# Altium integrated library Atmel Microcontroller ARM.IntLib: 148 symbols (part 6 of 11)
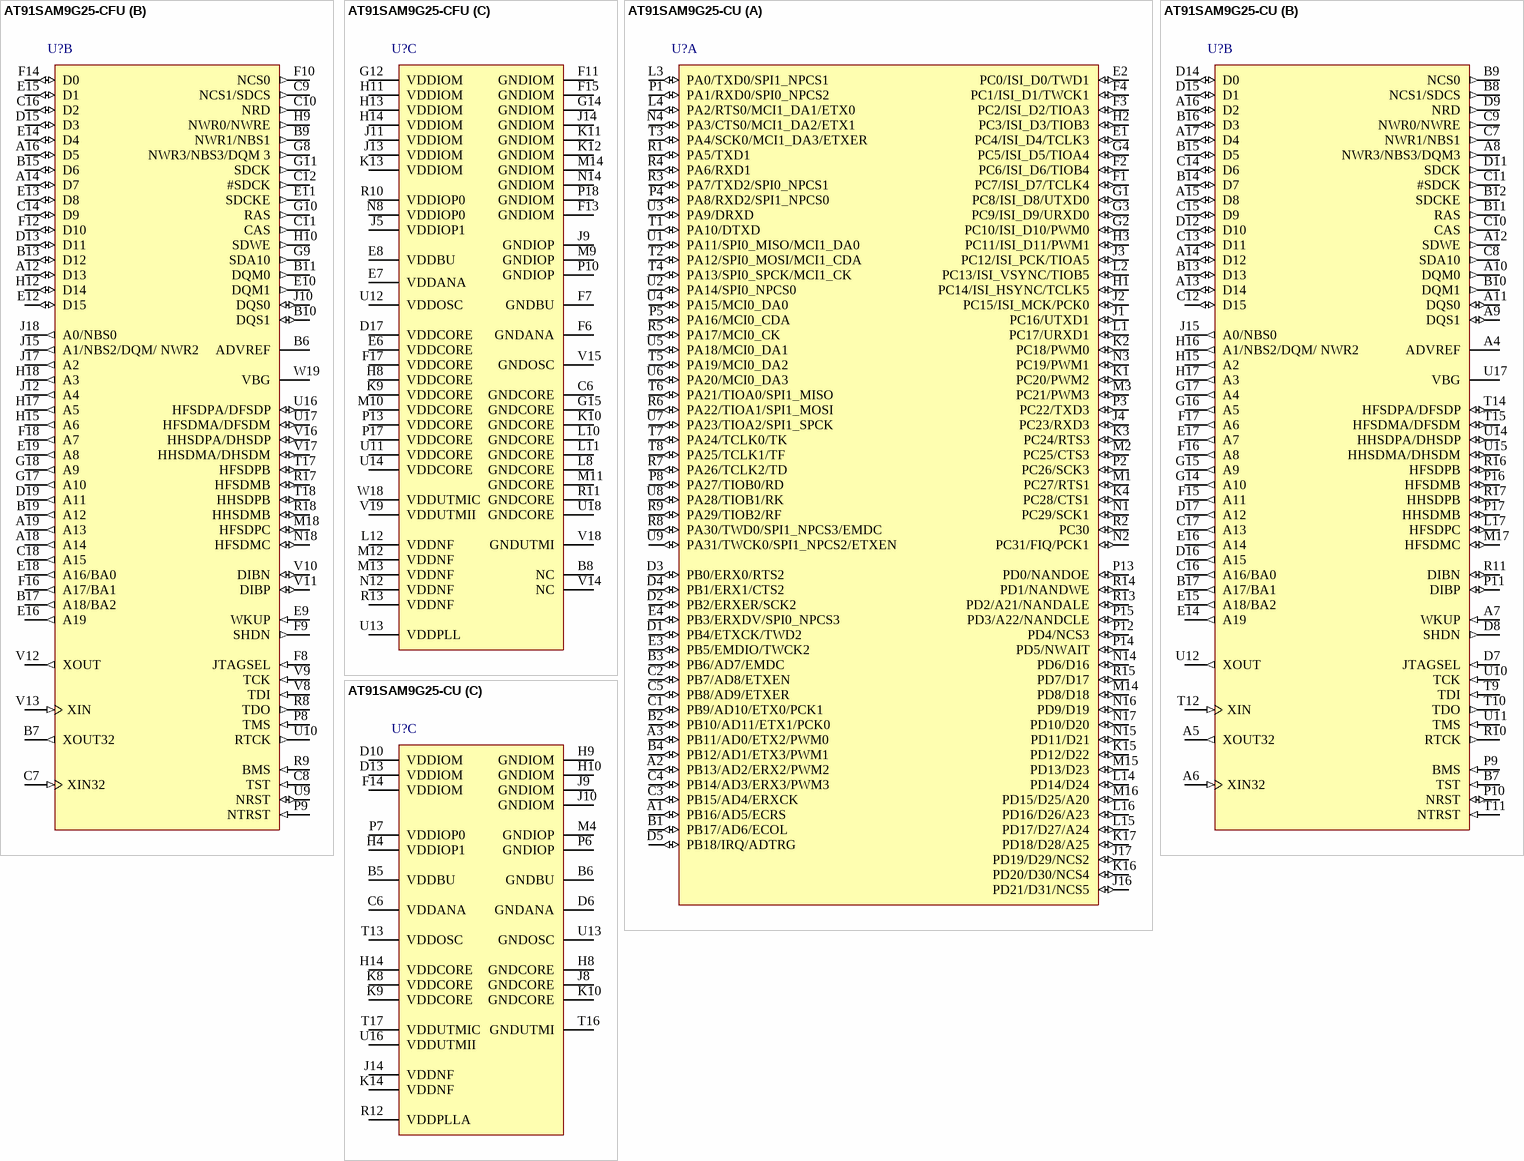
[diagram p66: symbols AT91SAM9G25-CFU to AT91SAM9G25-CU]

## AT91SAM9G25-CU
designator U?
AT91 ARM Thumb 32-bit Embedded MPU, 400MHz, 1V, Ethernet, HS USB, LPDDR/DDR2/MLC NAND support, 217-Pin BGA, Industrial Grade (-40°C to 85°C), Pb-Free; DatasheetVersion: revA, Jul-2011; PackageVersion: 2011; PackageReference: LFBGA217; PackageDescription: 217-Ball Plastic Low Profile Fine-Pitch BGA, 15 x 15 mm Body, 0.8 mm Pitch; Code_JEDEC: MO-205; ComponentLink1Description: Manufacturer URL; ComponentLink1URL: http://www.atmel.com/; ComponentLink2Description: SAM9G25 Datasheet; ComponentLink2URL: http://www.atmel.com/dyn/resources/prod_documents/doc11032.pdf; ComponentLink3Description: SAM9G25 Summary; ComponentLink3URL: http://www.atmel.com/dyn/resources/prod_documents/11032s.pdf
footprint LFBGA217 (BGA, 208-Leads, Body 15x15mm, Pitch 0.8mm, Solder Mask Defined Pads)
part A pins: A1 PB16/AD5/ECRS (io), A2 PB13/AD2/ERX2/PWM2 (io), A3 PB11/AD0/ETX2/PWM0 (io), B1 PB17/AD6/ECOL (io), B2 PB10/AD11/ETX1/PCK0 (io), B3 PB6/AD7/EMDC (io), B4 PB12/AD1/ETX3/PWM1 (io), C1 PB9/AD10/ETX0/PCK1 (io), C2 PB7/AD8/ETXEN (io), C3 PB15/AD4/ERXCK (io), C4 PB14/AD3/ERX3/PWM3 (io), C5 PB8/AD9/ETXER (io), D1 PB4/ETXCK/TWD2 (io), D2 PB2/ERXER/SCK2 (io), D3 PB0/ERX0/RTS2 (io), D4 PB1/ERX1/CTS2 (io), D5 PB18/IRQ/ADTRG (io), E1 PC4/ISI_D4/TCLK3 (io), E2 PC0/ISI_D0/TWD1 (io), E3 PB5/EMDIO/TWCK2 (io), E4 PB3/ERXDV/SPI0_NPCS3 (io), F1 PC7/ISI_D7/TCLK4 (io), F2 PC6/ISI_D6/TIOB4 (io), F3 PC2/ISI_D2/TIOA3 (io), F4 PC1/ISI_D1/TWCK1 (io), G1 PC8/ISI_D8/UTXD0 (io), G2 PC10/ISI_D10/PWM0 (io), G3 PC9/ISI_D9/URXD0 (io), G4 PC5/ISI_D5/TIOA4 (io), H1 PC14/ISI_HSYNC/TCLK5 (io), H2 PC3/ISI_D3/TIOB3 (io), H3 PC11/ISI_D11/PWM1 (io), J1 PC16/UTXD1 (io), J2 PC15/ISI_MCK/PCK0 (io), J3 PC12/ISI_PCK/TIOA5 (io), J4 PC23/RXD3 (io), J16 PD21/D31/NCS5 (io), J17 PD19/D29/NCS2 (io), K1 PC20/PWM2 (io), K2 PC18/PWM0 (io), K3 PC24/RTS3 (io), K4 PC28/CTS1 (io), K15 PD12/D22 (io), K16 PD20/D30/NCS4 (io), K17 PD18/D28/A25 (io), L1 PC17/URXD1 (io), L2 PC13/ISI_VSYNC/TIOB5 (io), L3 PA0/TXD0/SPI1_NPCS1 (io), L4 PA2/RTS0/MCI1_DA1/ETX0 (io), L14 PD14/D24 (io), L15 PD17/D27/A24 (io), L16 PD16/D26/A23 (io), M1 PC27/RTS1 (io), M2 PC25/CTS3 (io), M3 PC21/PWM3 (io), M14 PD8/D18 (io), M15 PD13/D23 (io), M16 PD15/D25/A20 (io), N1 PC29/SCK1 (io), N2 PC31/FIQ/PCK1 (io), N3 PC19/PWM1 (io), N4 PA3/CTS0/MCI1_DA2/ETX1 (io), N14 PD6/D16 (io), N15 PD11/D21 (io), N16 PD9/D19 (io), N17 PD10/D20 (io), P1 PA1/RXD0/SPI0_NPCS2 (io), P2 PC26/SCK3 (io), P3 PC22/TXD3 (io), P4 PA8/RXD2/SPI1_NPCS0 (io), P5 PA16/MCI0_CDA (io), P8 PA27/TIOB0/RD (io), P12 PD4/NCS3 (io), P13 PD0/NANDOE (io), P14 PD5/NWAIT (io), P15 PD3/A22/NANDCLE (io), R1 PA5/TXD1 (io), R2 PC30 (io), R3 PA7/TXD2/SPI0_NPCS1 (io), R4 PA6/RXD1 (io), R5 PA17/MCI0_CK (io), R6 PA22/TIOA1/SPI1_MOSI (io), R7 PA26/TCLK2/TD (io), R8 PA30/TWD0/SPI1_NPCS3/EMDC (io), R9 PA29/TIOB2/RF (io), R13 PD2/A21/NANDALE (io), R14 PD1/NANDWE (io), R15 PD7/D17 (io), T1 PA10/DTXD (io), T2 PA12/SPI0_MOSI/MCI1_CDA (io), T3 PA4/SCK0/MCI1_DA3/ETXER (io), T4 PA13/SPI0_SPCK/MCI1_CK (io), T5 PA19/MCI0_DA2 (io), T6 PA21/TIOA0/SPI1_MISO (io), T7 PA24/TCLK0/TK (io), T8 PA25/TCLK1/TF (io), U1 PA11/SPI0_MISO/MCI1_DA0 (io), U2 PA14/SPI0_NPCS0 (io), U3 PA9/DRXD (io), U4 PA15/MCI0_DA0 (io), U5 PA18/MCI0_DA1 (io), U6 PA20/MCI0_DA3 (io), U7 PA23/TIOA2/SPI1_SPCK (io), U8 PA28/TIOB1/RK (io), U9 PA31/TWCK0/SPI1_NPCS2/ETXEN (io)
part B pins: A4 ADVREF (power), A5 XOUT32 (out), A6 XIN32 (in), A7 WKUP (in), A8 NWR3/NBS3/DQM3 (out), A9 DQS1 (io), A10 DQM0 (out), A11 DQS0 (io), A12 SDWE (out), A13 D14 (io), A14 D12 (io), A15 D8 (io), A16 D2 (io), A17 D4 (io), B7 TST (in), B8 NCS1/SDCS (out), B9 NCS0 (out), B10 DQM1 (out), B11 RAS (out), B12 SDCKE (out), B13 D13 (io), B14 D7 (io), B15 D5 (io), B16 D3 (io), B17 A17/BA1 (out), C7 NWR1/NBS1 (out), C8 SDA10 (out), C9 NWR0/NWRE (out), C10 CAS (out), C11 #SDCK (out), C12 D15 (io), C13 D11 (io), C14 D6 (io), C15 D9 (io), C16 A16/BA0 (out), C17 A13 (out), D7 JTAGSEL (in), D8 SHDN (out), D9 NRD (out), D11 SDCK (out), D12 D10 (io), D14 D0 (io), D15 D1 (io), D16 A15 (out), D17 A12 (out), E14 A19 (out), E15 A18/BA2 (out), E16 A14 (out), E17 A7 (out), F15 A11 (out), F16 A8 (out), F17 A6 (out), G14 A10 (out), G15 A9 (out), G16 A5 (out), G17 A4 (out), H15 A2 (out), H16 A1/NBS2/DQM/ NWR2 (out), H17 A3 (out), J15 A0/NBS0 (out), L17 HFSDPC (io), M17 HFSDMC (io), P9 BMS (in), P10 NRST (io), P11 DIBP (io), P16 HFSDMB (io), P17 HHSDMB (io), R10 RTCK (out), R11 DIBN (io), R16 HFSDPB (io), R17 HHSDPB (io), T9 TDI (in), T10 TDO (out), T11 NTRST (in), T12 XIN (in), T14 HFSDPA/DFSDP (io), T15 HFSDMA/DFSDM (io), U10 TCK (in), U11 TMS (in), U12 XOUT (out), U14 HHSDPA/DHSDP (io), U15 HHSDMA/DHSDM (io), U17 VBG (power)
part C pins: B5 VDDBU (power), B6 GNDBU (power), C6 VDDANA (power), D6 GNDANA (power), D10 VDDIOM (power), D13 VDDIOM (power), F14 VDDIOM (power), H4 VDDIOP1 (power), H8 GNDCORE (power), H9 GNDIOM (power), H10 GNDIOM (power), H14 VDDCORE (power), J8 GNDCORE (power), J9 GNDIOM (power), J10 GNDIOM (power), J14 VDDNF (power), K8 VDDCORE (power), K9 VDDCORE (power), K10 GNDCORE (power), K14 VDDNF (power), M4 GNDIOP (power), P6 GNDIOP (power), P7 VDDIOP0 (power), R12 VDDPLLA (power), T13 VDDOSC (power), T16 GNDUTMI (power), T17 VDDUTMIC (power), U13 GNDOSC (power), U16 VDDUTMII (power)

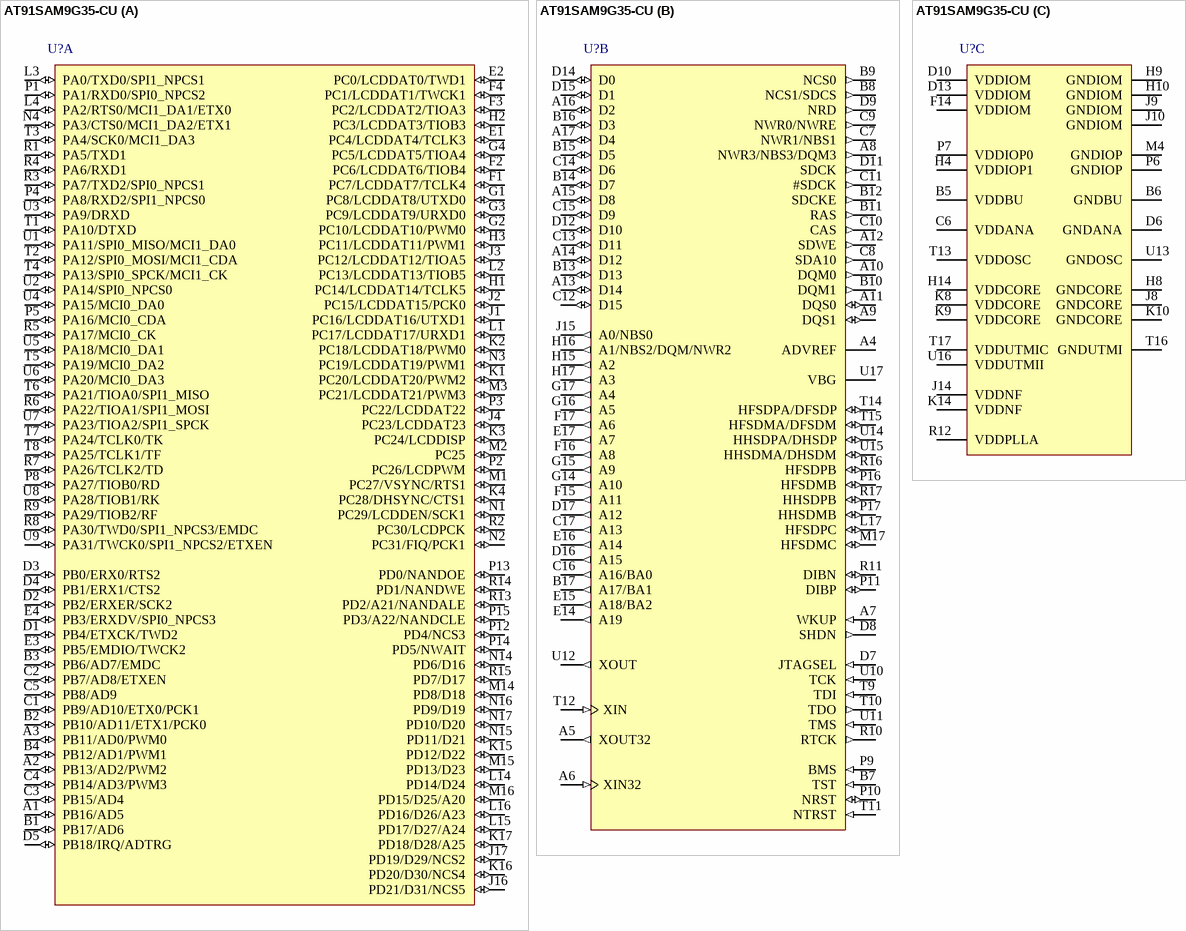
[diagram p33: symbol AT91SAM9G35-CU]

## AT91SAM9G35-CU
designator U?
AT91 ARM Thumb 32-bit Embedded MPU, 400MHz, 1V, LCD, Touchscreen, Ethernet, HS USB, LPDDR/DDR2/MLC NAND support, 217-Pin LFBGA, Industrial Grade (-40°C to 85°C), Pb-Free; DatasheetVersion: revB, Sep-2011; PackageVersion: 2011; PackageReference: LFBGA217; PackageDescription: 217-Ball Plastic Low Profile Fine-Pitch BGA, 15 x 15 mm Body, 0.8 mm Pitch; Code_JEDEC: MO-205; ComponentLink1Description: Manufacturer URL; ComponentLink1URL: http://www.atmel.com/; ComponentLink2Description: SAM9G35 Datasheet; ComponentLink2URL: http://www.atmel.com/dyn/resources/prod_documents/doc11053.pdf; ComponentLink3Description: SAM9G35 Summary; ComponentLink3URL: http://www.atmel.com/dyn/resources/prod_documents/11053s.pdf
footprint LFBGA217 (BGA, 208-Leads, Body 15x15mm, Pitch 0.8mm, Solder Mask Defined Pads)
part A pins: A1 PB16/AD5 (io), A2 PB13/AD2/PWM2 (io), A3 PB11/AD0/PWM0 (io), B1 PB17/AD6 (io), B2 PB10/AD11/ETX1/PCK0 (io), B3 PB6/AD7/EMDC (io), B4 PB12/AD1/PWM1 (io), C1 PB9/AD10/ETX0/PCK1 (io), C2 PB7/AD8/ETXEN (io), C3 PB15/AD4 (io), C4 PB14/AD3/PWM3 (io), C5 PB8/AD9 (io), D1 PB4/ETXCK/TWD2 (io), D2 PB2/ERXER/SCK2 (io), D3 PB0/ERX0/RTS2 (io), D4 PB1/ERX1/CTS2 (io), D5 PB18/IRQ/ADTRG (io), E1 PC4/LCDDAT4/TCLK3 (io), E2 PC0/LCDDAT0/TWD1 (io), E3 PB5/EMDIO/TWCK2 (io), E4 PB3/ERXDV/SPI0_NPCS3 (io), F1 PC7/LCDDAT7/TCLK4 (io), F2 PC6/LCDDAT6/TIOB4 (io), F3 PC2/LCDDAT2/TIOA3 (io), F4 PC1/LCDDAT1/TWCK1 (io), G1 PC8/LCDDAT8/UTXD0 (io), G2 PC10/LCDDAT10/PWM0 (io), G3 PC9/LCDDAT9/URXD0 (io), G4 PC5/LCDDAT5/TIOA4 (io), H1 PC14/LCDDAT14/TCLK5 (io), H2 PC3/LCDDAT3/TIOB3 (io), H3 PC11/LCDDAT11/PWM1 (io), J1 PC16/LCDDAT16/UTXD1 (io), J2 PC15/LCDDAT15/PCK0 (io), J3 PC12/LCDDAT12/TIOA5 (io), J4 PC23/LCDDAT23 (io), J16 PD21/D31/NCS5 (io), J17 PD19/D29/NCS2 (io), K1 PC20/LCDDAT20/PWM2 (io), K2 PC18/LCDDAT18/PWM0 (io), K3 PC24/LCDDISP (io), K4 PC28/DHSYNC/CTS1 (io), K15 PD12/D22 (io), K16 PD20/D30/NCS4 (io), K17 PD18/D28/A25 (io), L1 PC17/LCDDAT17/URXD1 (io), L2 PC13/LCDDAT13/TIOB5 (io), L3 PA0/TXD0/SPI1_NPCS1 (io), L4 PA2/RTS0/MCI1_DA1/ETX0 (io), L14 PD14/D24 (io), L15 PD17/D27/A24 (io), L16 PD16/D26/A23 (io), M1 PC27/VSYNC/RTS1 (io), M2 PC25 (io), M3 PC21/LCDDAT21/PWM3 (io), M14 PD8/D18 (io), M15 PD13/D23 (io), M16 PD15/D25/A20 (io), N1 PC29/LCDDEN/SCK1 (io), N2 PC31/FIQ/PCK1 (io), N3 PC19/LCDDAT19/PWM1 (io), N4 PA3/CTS0/MCI1_DA2/ETX1 (io), N14 PD6/D16 (io), N15 PD11/D21 (io), N16 PD9/D19 (io), N17 PD10/D20 (io), P1 PA1/RXD0/SPI0_NPCS2 (io), P2 PC26/LCDPWM (io), P3 PC22/LCDDAT22 (io), P4 PA8/RXD2/SPI1_NPCS0 (io), P5 PA16/MCI0_CDA (io), P8 PA27/TIOB0/RD (io), P12 PD4/NCS3 (io), P13 PD0/NANDOE (io), P14 PD5/NWAIT (io), P15 PD3/A22/NANDCLE (io), R1 PA5/TXD1 (io), R2 PC30/LCDPCK (io), R3 PA7/TXD2/SPI0_NPCS1 (io), R4 PA6/RXD1 (io), R5 PA17/MCI0_CK (io), R6 PA22/TIOA1/SPI1_MOSI (io), R7 PA26/TCLK2/TD (io), R8 PA30/TWD0/SPI1_NPCS3/EMDC (io), R9 PA29/TIOB2/RF (io), R13 PD2/A21/NANDALE (io), R14 PD1/NANDWE (io), R15 PD7/D17 (io), T1 PA10/DTXD (io), T2 PA12/SPI0_MOSI/MCI1_CDA (io), T3 PA4/SCK0/MCI1_DA3 (io), T4 PA13/SPI0_SPCK/MCI1_CK (io), T5 PA19/MCI0_DA2 (io), T6 PA21/TIOA0/SPI1_MISO (io), T7 PA24/TCLK0/TK (io), T8 PA25/TCLK1/TF (io), U1 PA11/SPI0_MISO/MCI1_DA0 (io), U2 PA14/SPI0_NPCS0 (io), U3 PA9/DRXD (io), U4 PA15/MCI0_DA0 (io), U5 PA18/MCI0_DA1 (io), U6 PA20/MCI0_DA3 (io), U7 PA23/TIOA2/SPI1_SPCK (io), U8 PA28/TIOB1/RK (io), U9 PA31/TWCK0/SPI1_NPCS2/ETXEN (io)
part B pins: A4 ADVREF (power), A5 XOUT32 (out), A6 XIN32 (in), A7 WKUP (in), A8 NWR3/NBS3/DQM3 (out), A9 DQS1 (io), A10 DQM0 (out), A11 DQS0 (io), A12 SDWE (out), A13 D14 (io), A14 D12 (io), A15 D8 (io), A16 D2 (io), A17 D4 (io), B7 TST (in), B8 NCS1/SDCS (out), B9 NCS0 (out), B10 DQM1 (out), B11 RAS (out), B12 SDCKE (out), B13 D13 (io), B14 D7 (io), B15 D5 (io), B16 D3 (io), B17 A17/BA1 (out), C7 NWR1/NBS1 (out), C8 SDA10 (out), C9 NWR0/NWRE (out), C10 CAS (out), C11 #SDCK (out), C12 D15 (io), C13 D11 (io), C14 D6 (io), C15 D9 (io), C16 A16/BA0 (out), C17 A13 (out), D7 JTAGSEL (in), D8 SHDN (out), D9 NRD (out), D11 SDCK (out), D12 D10 (io), D14 D0 (io), D15 D1 (io), D16 A15 (out), D17 A12 (out), E14 A19 (out), E15 A18/BA2 (out), E16 A14 (out), E17 A7 (out), F15 A11 (out), F16 A8 (out), F17 A6 (out), G14 A10 (out), G15 A9 (out), G16 A5 (out), G17 A4 (out), H15 A2 (out), H16 A1/NBS2/DQM/NWR2 (out), H17 A3 (out), J15 A0/NBS0 (out), L17 HFSDPC (io), M17 HFSDMC (io), P9 BMS (in), P10 NRST (io), P11 DIBP (io), P16 HFSDMB (io), P17 HHSDMB (io), R10 RTCK (out), R11 DIBN (io), R16 HFSDPB (io), R17 HHSDPB (io), T9 TDI (in), T10 TDO (out), T11 NTRST (in), T12 XIN (in), T14 HFSDPA/DFSDP (io), T15 HFSDMA/DFSDM (io), U10 TCK (in), U11 TMS (in), U12 XOUT (out), U14 HHSDPA/DHSDP (io), U15 HHSDMA/DHSDM (io), U17 VBG (power)
part C pins: B5 VDDBU (power), B6 GNDBU (power), C6 VDDANA (power), D6 GNDANA (power), D10 VDDIOM (power), D13 VDDIOM (power), F14 VDDIOM (power), H4 VDDIOP1 (power), H8 GNDCORE (power), H9 GNDIOM (power), H10 GNDIOM (power), H14 VDDCORE (power), J8 GNDCORE (power), J9 GNDIOM (power), J10 GNDIOM (power), J14 VDDNF (power), K8 VDDCORE (power), K9 VDDCORE (power), K10 GNDCORE (power), K14 VDDNF (power), M4 GNDIOP (power), P6 GNDIOP (power), P7 VDDIOP0 (power), R12 VDDPLLA (power), T13 VDDOSC (power), T16 GNDUTMI (power), T17 VDDUTMIC (power), U13 GNDOSC (power), U16 VDDUTMII (power)

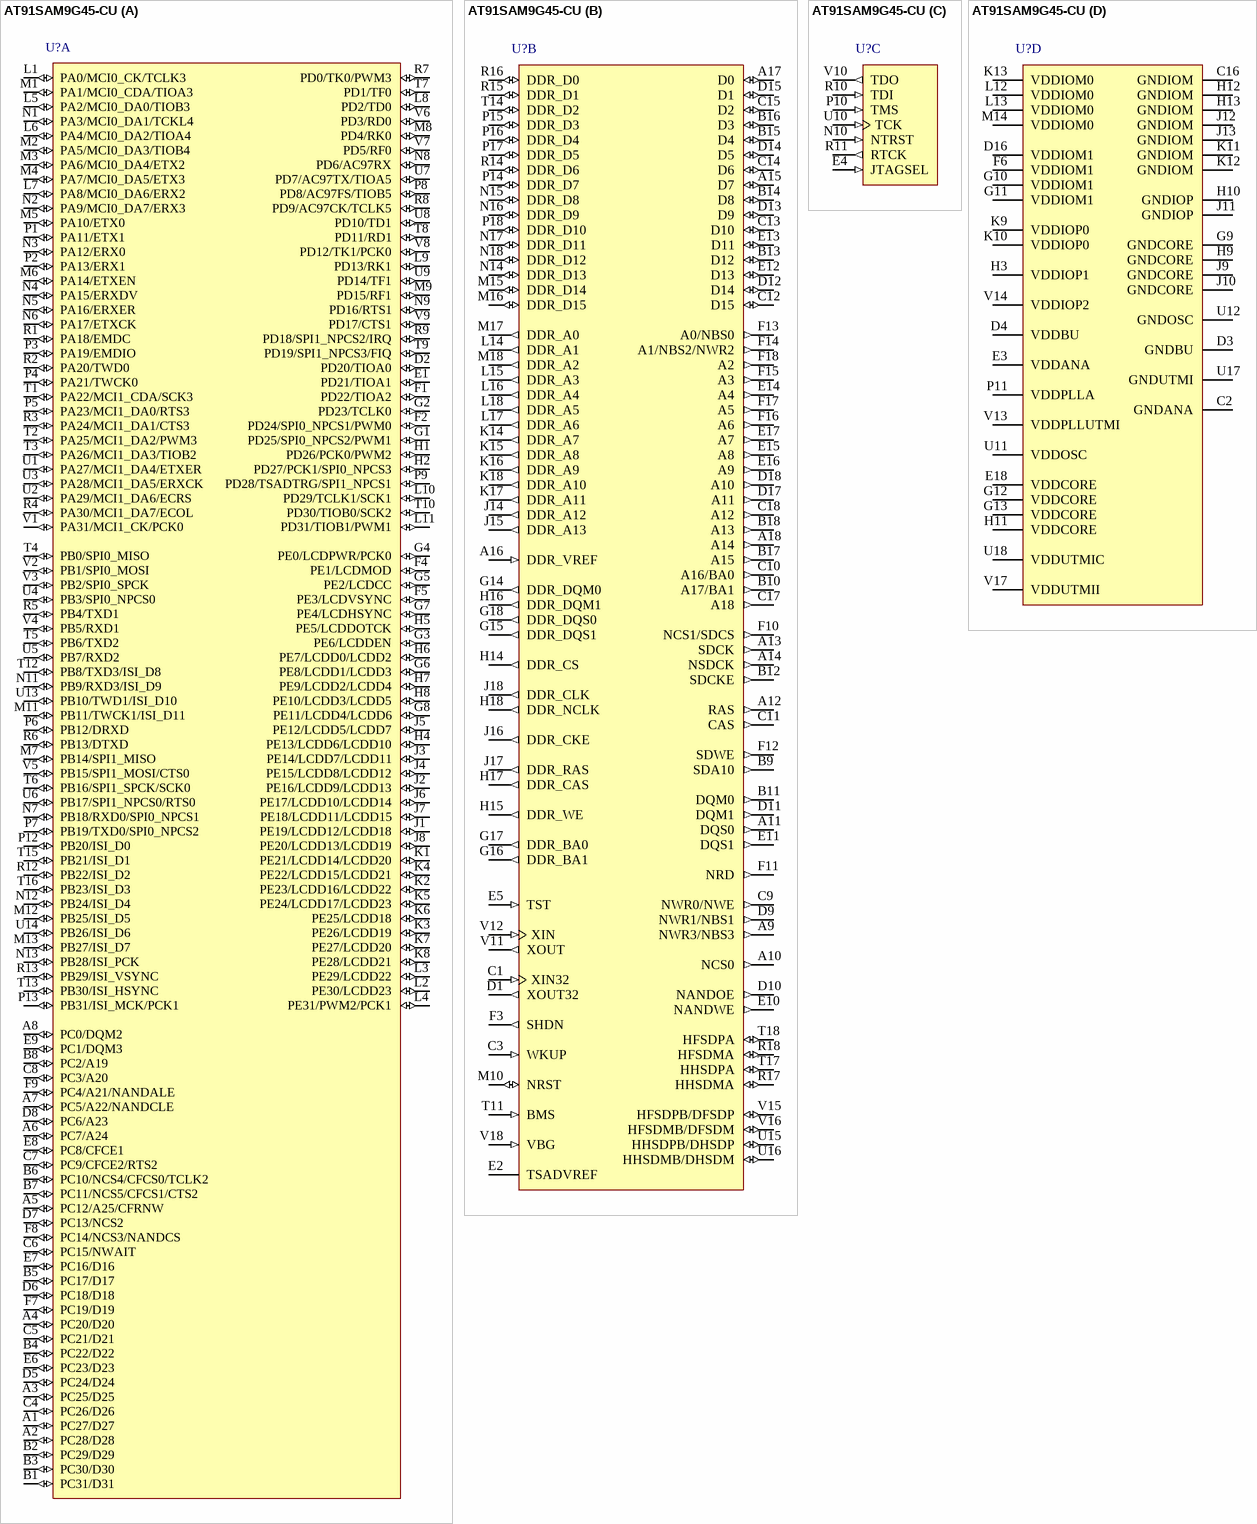
[diagram p34: symbol AT91SAM9G45-CU]

## AT91SAM9G45-CU
designator U?
AT91 ARM Thumb 32-bit Embedded MPU, 400MHz, 64KB ROM, 64KB SRAM, EBI, E-MAC, HS USB, 24-ch. PDC, 324-Pin TFBGA, Industrial Grade (-40°C to 85°C), Pb-Free; DatasheetVersion: revG, Apr-2011; PackageVersion: 2011; PackageReference: TFBGA324; PackageDescription: 324-Ball Low Profile Fine-Pitch BGA, 15 x 15 mm Body, 0.8 mm Pitch; Code_JEDEC: MO-210; ComponentLink1Description: Manufacturer URL; ComponentLink1URL: http://www.atmel.com/; ComponentLink2Description: AT91SAM9G45 Datasheet; ComponentLink2URL: http://www.atmel.com/dyn/resources/prod_documents/doc6438.pdf; ComponentLink3Description: AT91SAM9G45 Summary; ComponentLink3URL: http://www.atmel.com/dyn/resources/prod_documents/6438s.pdf; ComponentLink4Description: ARM926EJ-S Reference Manual; ComponentLink4URL: http://www.atmel.com/dyn/resources/prod_documents/ARM_926EJS_TRM.pdf
footprint TFBGA324 (BGA, 324-Leads, Body 15x15mm, Pitch 0.8mm)
part A pins: A1 PC27/D27 (io), A2 PC28/D28 (io), A3 PC25/D25 (io), A4 PC20/D20 (io), A5 PC12/A25/CFRNW (io), A6 PC7/A24 (io), A7 PC5/A22/NANDCLE (io), A8 PC0/DQM2 (io), B1 PC31/D31 (io), B2 PC29/D29 (io), B3 PC30/D30 (io), B4 PC22/D22 (io), B5 PC17/D17 (io), B6 PC10/NCS4/CFCS0/TCLK2 (io), B7 PC11/NCS5/CFCS1/CTS2 (io), B8 PC2/A19 (io), C4 PC26/D26 (io), C5 PC21/D21 (io), C6 PC15/NWAIT (io), C7 PC9/CFCE2/RTS2 (io), C8 PC3/A20 (io), D2 PD20/TIOA0 (io), D5 PC24/D24 (io), D6 PC18/D18 (io), D7 PC13/NCS2 (io), D8 PC6/A23 (io), E1 PD21/TIOA1 (io), E6 PC23/D23 (io), E7 PC16/D16 (io), E8 PC8/CFCE1 (io), E9 PC1/DQM3 (io), F1 PD22/TIOA2 (io), F2 PD24/SPI0_NPCS1/PWM0 (io), F4 PE1/LCDMOD (io), F5 PE3/LCDVSYNC (io), F7 PC19/D19 (io), F8 PC14/NCS3/NANDCS (io), F9 PC4/A21/NANDALE (io), G1 PD25/SPI0_NPCS2/PWM1 (io), G2 PD23/TCLK0 (io), G3 PE6/LCDDEN (io), G4 PE0/LCDPWR/PCK0 (io), G5 PE2/LCDCC (io), G6 PE8/LCDD1/LCDD3 (io), G7 PE4/LCDHSYNC (io), G8 PE11/LCDD4/LCDD6 (io), H1 PD26/PCK0/PWM2 (io), H2 PD27/PCK1/SPI0_NPCS3 (io), H4 PE13/LCDD6/LCDD10 (io), H5 PE5/LCDDOTCK (io), H6 PE7/LCDD0/LCDD2 (io), H7 PE9/LCDD2/LCDD4 (io), H8 PE10/LCDD3/LCDD5 (io), J1 PE19/LCDD12/LCDD18 (io), J2 PE16/LCDD9/LCDD13 (io), J3 PE14/LCDD7/LCDD11 (io), J4 PE15/LCDD8/LCDD12 (io), J5 PE12/LCDD5/LCDD7 (io), J6 PE17/LCDD10/LCDD14 (io), J7 PE18/LCDD11/LCDD15 (io), J8 PE20/LCDD13/LCDD19 (io), K1 PE21/LCDD14/LCDD20 (io), K2 PE23/LCDD16/LCDD22 (io), K3 PE26/LCDD19 (io), K4 PE22/LCDD15/LCDD21 (io), K5 PE24/LCDD17/LCDD23 (io), K6 PE25/LCDD18 (io), K7 PE27/LCDD20 (io), K8 PE28/LCDD21 (io), L1 PA0/MCI0_CK/TCLK3 (io), L2 PE30/LCDD23 (io), L3 PE29/LCDD22 (io), L4 PE31/PWM2/PCK1 (io), L5 PA2/MCI0_DA0/TIOB3 (io), L6 PA4/MCI0_DA2/TIOA4 (io), L7 PA8/MCI0_DA6/ERX2 (io), L8 PD2/TD0 (io), L9 PD13/RK1 (io), L10 PD29/TCLK1/SCK1 (io), L11 PD31/TIOB1/PWM1 (io), M1 PA1/MCI0_CDA/TIOA3 (io), M2 PA5/MCI0_DA3/TIOB4 (io), M3 PA6/MCI0_DA4/ETX2 (io), M4 PA7/MCI0_DA5/ETX3 (io), M5 PA10/ETX0 (io), M6 PA14/ETXEN (io), M7 PB14/SPI1_MISO (io), M8 PD4/RK0 (io), M9 PD15/RF1 (io), M11 PB11/TWCK1/ISI_D11 (io), M12 PB25/ISI_D5 (io), M13 PB27/ISI_D7 (io), N1 PA3/MCI0_DA1/TCKL4 (io), N2 PA9/MCI0_DA7/ERX3 (io), N3 PA12/ERX0 (io), N4 PA15/ERXDV (io), N5 PA16/ERXER (io), N6 PA17/ETXCK (io), N7 PB18/RXD0/SPI0_NPCS1 (io), N8 PD6/AC97RX (io), N9 PD16/RTS1 (io), N11 PB9/RXD3/ISI_D9 (io), N12 PB24/ISI_D4 (io), N13 PB28/ISI_PCK (io), P1 PA11/ETX1 (io), P2 PA13/ERX1 (io), P3 PA19/EMDIO (io), P4 PA21/TWCK0 (io), P5 PA23/MCI1_DA0/RTS3 (io), P6 PB12/DRXD (io), P7 PB19/TXD0/SPI0_NPCS2 (io), P8 PD8/AC97FS/TIOB5 (io), P9 PD28/TSADTRG/SPI1_NPCS1 (io), P12 PB20/ISI_D0 (io), P13 PB31/ISI_MCK/PCK1 (io), R1 PA18/EMDC (io), R2 PA20/TWD0 (io), R3 PA24/MCI1_DA1/CTS3 (io), R4 PA30/MCI1_DA7/ECOL (io), R5 PB4/TXD1 (io), R6 PB13/DTXD (io), R7 PD0/TK0/PWM3 (io), R8 PD9/AC97CK/TCLK5 (io), R9 PD18/SPI1_NPCS2/IRQ (io), R12 PB22/ISI_D2 (io), R13 PB29/ISI_VSYNC (io), T1 PA22/MCI1_CDA/SCK3 (io), T2 PA25/MCI1_DA2/PWM3 (io), T3 PA26/MCI1_DA3/TIOB2 (io), T4 PB0/SPI0_MISO (io), T5 PB6/TXD2 (io), T6 PB16/SPI1_SPCK/SCK0 (io), T7 PD1/TF0 (io), T8 PD11/RD1 (io), T9 PD19/SPI1_NPCS3/FIQ (io), T10 PD30/TIOB0/SCK2 (io), T12 PB8/TXD3/ISI_D8 (io), T13 PB30/ISI_HSYNC (io), T15 PB21/ISI_D1 (io), T16 PB23/ISI_D3 (io), U1 PA27/MCI1_DA4/ETXER (io), U2 PA29/MCI1_DA6/ECRS (io), U3 PA28/MCI1_DA5/ERXCK (io), U4 PB3/SPI0_NPCS0 (io), U5 PB7/RXD2 (io), U6 PB17/SPI1_NPCS0/RTS0 (io), U7 PD7/AC97TX/TIOA5 (io), U8 PD10/TD1 (io), U9 PD14/TF1 (io), U13 PB10/TWD1/ISI_D10 (io), U14 PB26/ISI_D6 (io), V1 PA31/MCI1_CK/PCK0 (io), V2 PB1/SPI0_MOSI (io), V3 PB2/SPI0_SPCK (io), V4 PB5/RXD1 (io), V5 PB15/SPI1_MOSI/CTS0 (io), V6 PD3/RD0 (io), V7 PD5/RF0 (io), V8 PD12/TK1/PCK0 (io), V9 PD17/CTS1 (io)
part B pins: A9 NWR3/NBS3 (out), A10 NCS0 (out), A11 DQS0 (out), A12 RAS (out), A13 SDCK (out), A14 NSDCK (out), A15 D7 (io), A16 DDR_VREF (in), A17 D0 (io), A18 A14 (out), B9 SDA10 (out), B10 A17/BA1 (out), B11 DQM0 (out), B12 SDCKE (out), B13 D12 (io), B14 D8 (io), B15 D4 (io), B16 D3 (io), B17 A15 (out), B18 A13 (out), C1 XIN32 (in), C3 WKUP (in), C9 NWR0/NWE (out), C10 A16/BA0 (out), C11 CAS (out), C12 D15 (io), C13 D10 (io), C14 D6 (io), C15 D2 (io), C17 A18 (out), C18 A12 (out), D1 XOUT32 (out), D9 NWR1/NBS1 (out), D10 NANDOE (out), D11 DQM1 (out), D12 D14 (io), D13 D9 (io), D14 D5 (io), D15 D1 (io), D17 A11 (out), D18 A10 (out), E2 TSADVREF (power), E5 TST (in), E10 NANDWE (out), E11 DQS1 (out), E12 D13 (io), E13 D11 (io), E14 A4 (out), E15 A8 (out), E16 A9 (out), E17 A7 (out), F3 SHDN (out), F10 NCS1/SDCS (out), F11 NRD (out), F12 SDWE (out), F13 A0/NBS0 (out), F14 A1/NBS2/NWR2 (out), F15 A3 (out), F16 A6 (out), F17 A5 (out), F18 A2 (out), G14 DDR_DQM0 (out), G15 DDR_DQS1 (out), G16 DDR_BA1 (out), G17 DDR_BA0 (out), G18 DDR_DQS0 (out), H14 DDR_CS (out), H15 DDR_WE (out), H16 DDR_DQM1 (out), H17 DDR_CAS (out), H18 DDR_NCLK (out), J14 DDR_A12 (out), J15 DDR_A13 (out), J16 DDR_CKE (out), J17 DDR_RAS (out), J18 DDR_CLK (out), K14 DDR_A7 (out), K15 DDR_A8 (out), K16 DDR_A9 (out), K17 DDR_A11 (out), K18 DDR_A10 (out), L14 DDR_A1 (out), L15 DDR_A3 (out), L16 DDR_A4 (out), L17 DDR_A6 (out), L18 DDR_A5 (out), M10 NRST (io), M15 DDR_D14 (io), M16 DDR_D15 (io), M17 DDR_A0 (out), M18 DDR_A2 (out), N14 DDR_D13 (io), N15 DDR_D8 (io), N16 DDR_D9 (io), N17 DDR_D11 (io), N18 DDR_D12 (io), P14 DDR_D7 (io), P15 DDR_D3 (io), P16 DDR_D4 (io), P17 DDR_D5 (io), P18 DDR_D10 (io), R14 DDR_D6 (io), R15 DDR_D1 (io), R16 DDR_D0 (io), R17 HHSDMA (io), R18 HFSDMA (io), T11 BMS (in), T14 DDR_D2 (io), T17 HHSDPA (io), T18 HFSDPA (io), U15 HHSDPB/DHSDP (io), U16 HHSDMB/DHSDM (io), V11 XOUT (out), V12 XIN (in), V15 HFSDPB/DFSDP (io), V16 HFSDMB/DFSDM (io), V18 VBG (in)
part C pins: E4 JTAGSEL (in), N10 NTRST (in), P10 TMS (in), R10 TDI (in), R11 RTCK (out), U10 TCK (in), V10 TDO (out)
part D pins: C2 GNDANA (power), C16 GNDIOM (power), D3 GNDBU (power), D4 VDDBU (power), D16 VDDIOM1 (power), E3 VDDANA (power), E18 VDDCORE (power), F6 VDDIOM1 (power), G9 GNDCORE (power), G10 VDDIOM1 (power), G11 VDDIOM1 (power), G12 VDDCORE (power), G13 VDDCORE (power), H3 VDDIOP1 (power), H9 GNDCORE (power), H10 GNDIOP (power), H11 VDDCORE (power), H12 GNDIOM (power), H13 GNDIOM (power), J9 GNDCORE (power), J10 GNDCORE (power), J11 GNDIOP (power), J12 GNDIOM (power), J13 GNDIOM (power), K9 VDDIOP0 (power), K10 VDDIOP0 (power), K11 GNDIOM (power), K12 GNDIOM (power), K13 VDDIOM0 (power), L12 VDDIOM0 (power), L13 VDDIOM0 (power), M14 VDDIOM0 (power), P11 VDDPLLA (power), U11 VDDOSC (power), U12 GNDOSC (power), U17 GNDUTMI (power), U18 VDDUTMIC (power), V13 VDDPLLUTMI (power), V14 VDDIOP2 (power), V17 VDDUTMII (power)

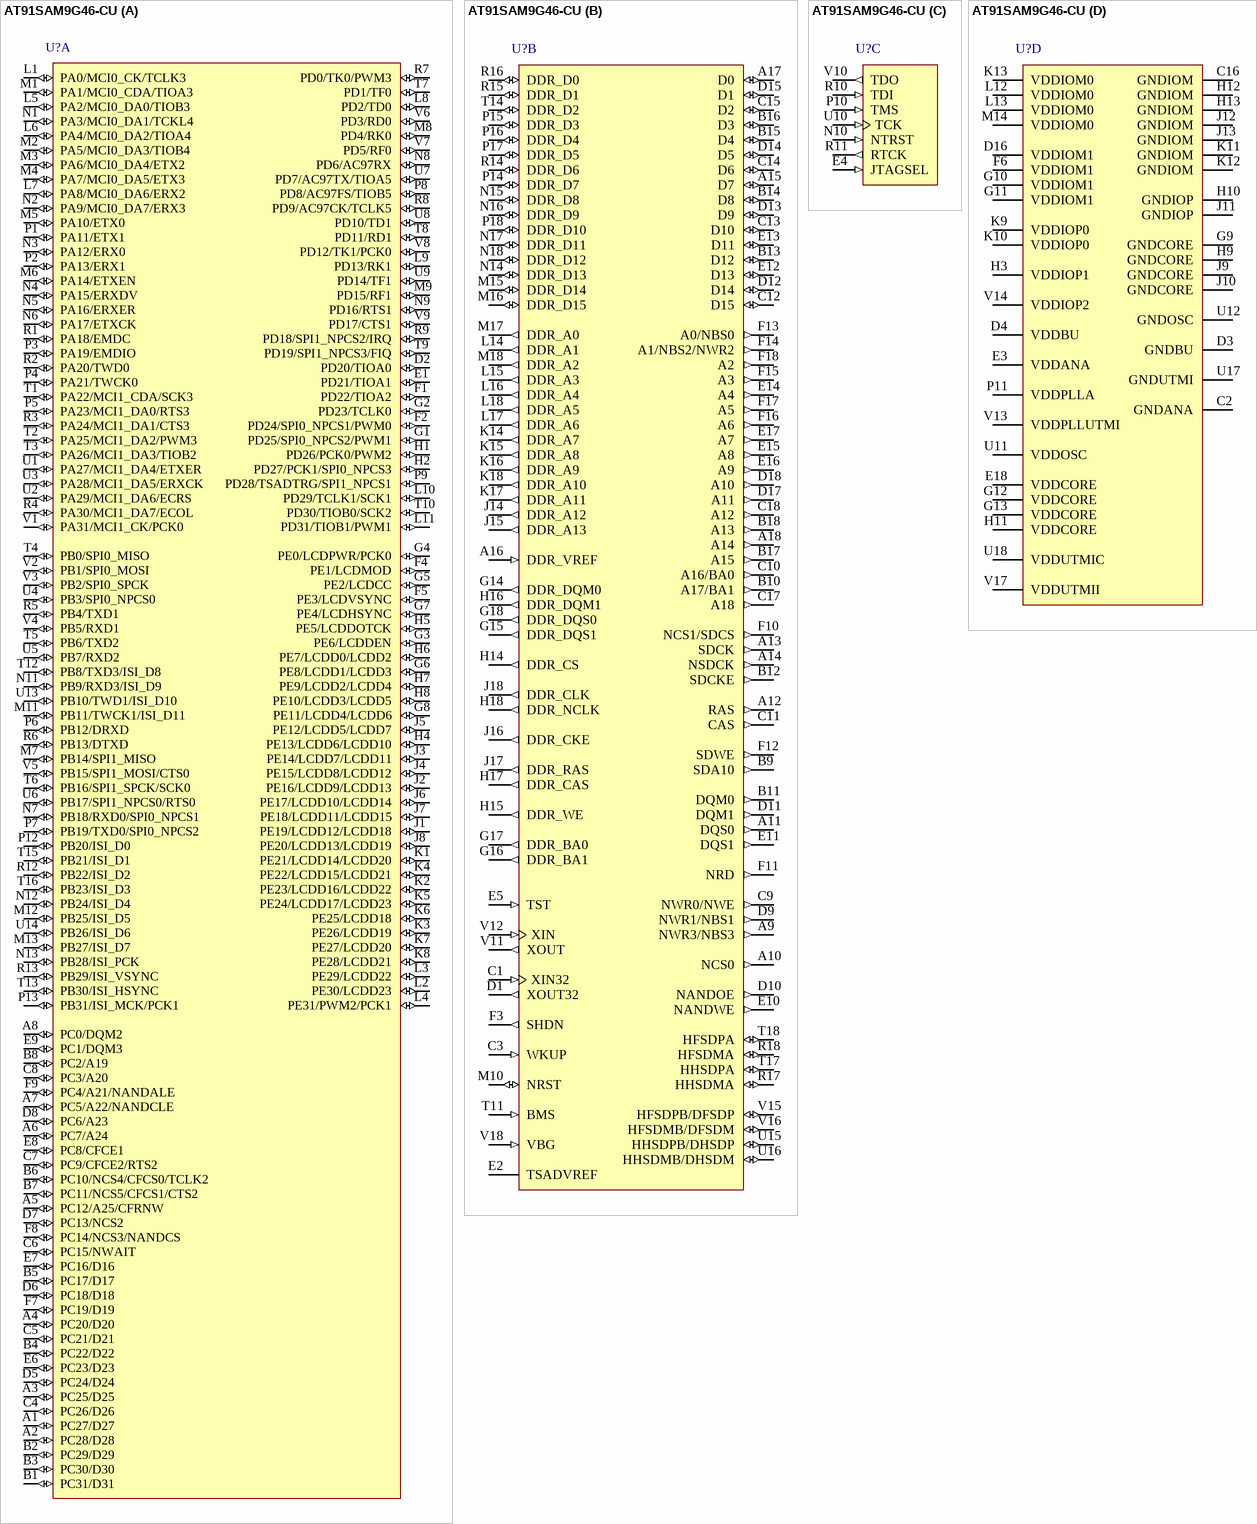
[diagram p35: symbol AT91SAM9G46-CU]

## AT91SAM9G46-CU
designator U?
AT91 ARM Thumb 32-bit Embedded MPU, 400MHz, 64KB ROM, 64KB SRAM, EBI, E-MAC, HS USB, 256-bit AES, 324-Pin TFBGA, Industrial Grade (-40°C to 85°C), Pb-Free; DatasheetVersion: revCS, Apr-2011; PackageVersion: 2011; PackageReference: TFBGA324; PackageDescription: 324-Ball Low Profile Fine-Pitch BGA, 15 x 15 mm Body, 0.8 mm Pitch; Code_JEDEC: MO-210; ComponentLink1Description: Manufacturer URL; ComponentLink1URL: http://www.atmel.com/; ComponentLink2Description: AT91SAM9G46 Summary; ComponentLink2URL: http://www.atmel.com/dyn/resources/prod_documents/11028S.pdf; ComponentLink3Description: ARM926EJ-S Reference Manual; ComponentLink3URL: http://www.atmel.com/dyn/resources/prod_documents/ARM_926EJS_TRM.pdf
footprint TFBGA324 (BGA, 324-Leads, Body 15x15mm, Pitch 0.8mm)
part A pins: A1 PC27/D27 (io), A2 PC28/D28 (io), A3 PC25/D25 (io), A4 PC20/D20 (io), A5 PC12/A25/CFRNW (io), A6 PC7/A24 (io), A7 PC5/A22/NANDCLE (io), A8 PC0/DQM2 (io), B1 PC31/D31 (io), B2 PC29/D29 (io), B3 PC30/D30 (io), B4 PC22/D22 (io), B5 PC17/D17 (io), B6 PC10/NCS4/CFCS0/TCLK2 (io), B7 PC11/NCS5/CFCS1/CTS2 (io), B8 PC2/A19 (io), C4 PC26/D26 (io), C5 PC21/D21 (io), C6 PC15/NWAIT (io), C7 PC9/CFCE2/RTS2 (io), C8 PC3/A20 (io), D2 PD20/TIOA0 (io), D5 PC24/D24 (io), D6 PC18/D18 (io), D7 PC13/NCS2 (io), D8 PC6/A23 (io), E1 PD21/TIOA1 (io), E6 PC23/D23 (io), E7 PC16/D16 (io), E8 PC8/CFCE1 (io), E9 PC1/DQM3 (io), F1 PD22/TIOA2 (io), F2 PD24/SPI0_NPCS1/PWM0 (io), F4 PE1/LCDMOD (io), F5 PE3/LCDVSYNC (io), F7 PC19/D19 (io), F8 PC14/NCS3/NANDCS (io), F9 PC4/A21/NANDALE (io), G1 PD25/SPI0_NPCS2/PWM1 (io), G2 PD23/TCLK0 (io), G3 PE6/LCDDEN (io), G4 PE0/LCDPWR/PCK0 (io), G5 PE2/LCDCC (io), G6 PE8/LCDD1/LCDD3 (io), G7 PE4/LCDHSYNC (io), G8 PE11/LCDD4/LCDD6 (io), H1 PD26/PCK0/PWM2 (io), H2 PD27/PCK1/SPI0_NPCS3 (io), H4 PE13/LCDD6/LCDD10 (io), H5 PE5/LCDDOTCK (io), H6 PE7/LCDD0/LCDD2 (io), H7 PE9/LCDD2/LCDD4 (io), H8 PE10/LCDD3/LCDD5 (io), J1 PE19/LCDD12/LCDD18 (io), J2 PE16/LCDD9/LCDD13 (io), J3 PE14/LCDD7/LCDD11 (io), J4 PE15/LCDD8/LCDD12 (io), J5 PE12/LCDD5/LCDD7 (io), J6 PE17/LCDD10/LCDD14 (io), J7 PE18/LCDD11/LCDD15 (io), J8 PE20/LCDD13/LCDD19 (io), K1 PE21/LCDD14/LCDD20 (io), K2 PE23/LCDD16/LCDD22 (io), K3 PE26/LCDD19 (io), K4 PE22/LCDD15/LCDD21 (io), K5 PE24/LCDD17/LCDD23 (io), K6 PE25/LCDD18 (io), K7 PE27/LCDD20 (io), K8 PE28/LCDD21 (io), L1 PA0/MCI0_CK/TCLK3 (io), L2 PE30/LCDD23 (io), L3 PE29/LCDD22 (io), L4 PE31/PWM2/PCK1 (io), L5 PA2/MCI0_DA0/TIOB3 (io), L6 PA4/MCI0_DA2/TIOA4 (io), L7 PA8/MCI0_DA6/ERX2 (io), L8 PD2/TD0 (io), L9 PD13/RK1 (io), L10 PD29/TCLK1/SCK1 (io), L11 PD31/TIOB1/PWM1 (io), M1 PA1/MCI0_CDA/TIOA3 (io), M2 PA5/MCI0_DA3/TIOB4 (io), M3 PA6/MCI0_DA4/ETX2 (io), M4 PA7/MCI0_DA5/ETX3 (io), M5 PA10/ETX0 (io), M6 PA14/ETXEN (io), M7 PB14/SPI1_MISO (io), M8 PD4/RK0 (io), M9 PD15/RF1 (io), M11 PB11/TWCK1/ISI_D11 (io), M12 PB25/ISI_D5 (io), M13 PB27/ISI_D7 (io), N1 PA3/MCI0_DA1/TCKL4 (io), N2 PA9/MCI0_DA7/ERX3 (io), N3 PA12/ERX0 (io), N4 PA15/ERXDV (io), N5 PA16/ERXER (io), N6 PA17/ETXCK (io), N7 PB18/RXD0/SPI0_NPCS1 (io), N8 PD6/AC97RX (io), N9 PD16/RTS1 (io), N11 PB9/RXD3/ISI_D9 (io), N12 PB24/ISI_D4 (io), N13 PB28/ISI_PCK (io), P1 PA11/ETX1 (io), P2 PA13/ERX1 (io), P3 PA19/EMDIO (io), P4 PA21/TWCK0 (io), P5 PA23/MCI1_DA0/RTS3 (io), P6 PB12/DRXD (io), P7 PB19/TXD0/SPI0_NPCS2 (io), P8 PD8/AC97FS/TIOB5 (io), P9 PD28/TSADTRG/SPI1_NPCS1 (io), P12 PB20/ISI_D0 (io), P13 PB31/ISI_MCK/PCK1 (io), R1 PA18/EMDC (io), R2 PA20/TWD0 (io), R3 PA24/MCI1_DA1/CTS3 (io), R4 PA30/MCI1_DA7/ECOL (io), R5 PB4/TXD1 (io), R6 PB13/DTXD (io), R7 PD0/TK0/PWM3 (io), R8 PD9/AC97CK/TCLK5 (io), R9 PD18/SPI1_NPCS2/IRQ (io), R12 PB22/ISI_D2 (io), R13 PB29/ISI_VSYNC (io), T1 PA22/MCI1_CDA/SCK3 (io), T2 PA25/MCI1_DA2/PWM3 (io), T3 PA26/MCI1_DA3/TIOB2 (io), T4 PB0/SPI0_MISO (io), T5 PB6/TXD2 (io), T6 PB16/SPI1_SPCK/SCK0 (io), T7 PD1/TF0 (io), T8 PD11/RD1 (io), T9 PD19/SPI1_NPCS3/FIQ (io), T10 PD30/TIOB0/SCK2 (io), T12 PB8/TXD3/ISI_D8 (io), T13 PB30/ISI_HSYNC (io), T15 PB21/ISI_D1 (io), T16 PB23/ISI_D3 (io), U1 PA27/MCI1_DA4/ETXER (io), U2 PA29/MCI1_DA6/ECRS (io), U3 PA28/MCI1_DA5/ERXCK (io), U4 PB3/SPI0_NPCS0 (io), U5 PB7/RXD2 (io), U6 PB17/SPI1_NPCS0/RTS0 (io), U7 PD7/AC97TX/TIOA5 (io), U8 PD10/TD1 (io), U9 PD14/TF1 (io), U13 PB10/TWD1/ISI_D10 (io), U14 PB26/ISI_D6 (io), V1 PA31/MCI1_CK/PCK0 (io), V2 PB1/SPI0_MOSI (io), V3 PB2/SPI0_SPCK (io), V4 PB5/RXD1 (io), V5 PB15/SPI1_MOSI/CTS0 (io), V6 PD3/RD0 (io), V7 PD5/RF0 (io), V8 PD12/TK1/PCK0 (io), V9 PD17/CTS1 (io)
part B pins: A9 NWR3/NBS3 (out), A10 NCS0 (out), A11 DQS0 (out), A12 RAS (out), A13 SDCK (out), A14 NSDCK (out), A15 D7 (io), A16 DDR_VREF (in), A17 D0 (io), A18 A14 (out), B9 SDA10 (out), B10 A17/BA1 (out), B11 DQM0 (out), B12 SDCKE (out), B13 D12 (io), B14 D8 (io), B15 D4 (io), B16 D3 (io), B17 A15 (out), B18 A13 (out), C1 XIN32 (in), C3 WKUP (in), C9 NWR0/NWE (out), C10 A16/BA0 (out), C11 CAS (out), C12 D15 (io), C13 D10 (io), C14 D6 (io), C15 D2 (io), C17 A18 (out), C18 A12 (out), D1 XOUT32 (out), D9 NWR1/NBS1 (out), D10 NANDOE (out), D11 DQM1 (out), D12 D14 (io), D13 D9 (io), D14 D5 (io), D15 D1 (io), D17 A11 (out), D18 A10 (out), E2 TSADVREF (power), E5 TST (in), E10 NANDWE (out), E11 DQS1 (out), E12 D13 (io), E13 D11 (io), E14 A4 (out), E15 A8 (out), E16 A9 (out), E17 A7 (out), F3 SHDN (out), F10 NCS1/SDCS (out), F11 NRD (out), F12 SDWE (out), F13 A0/NBS0 (out), F14 A1/NBS2/NWR2 (out), F15 A3 (out), F16 A6 (out), F17 A5 (out), F18 A2 (out), G14 DDR_DQM0 (out), G15 DDR_DQS1 (out), G16 DDR_BA1 (out), G17 DDR_BA0 (out), G18 DDR_DQS0 (out), H14 DDR_CS (out), H15 DDR_WE (out), H16 DDR_DQM1 (out), H17 DDR_CAS (out), H18 DDR_NCLK (out), J14 DDR_A12 (out), J15 DDR_A13 (out), J16 DDR_CKE (out), J17 DDR_RAS (out), J18 DDR_CLK (out), K14 DDR_A7 (out), K15 DDR_A8 (out), K16 DDR_A9 (out), K17 DDR_A11 (out), K18 DDR_A10 (out), L14 DDR_A1 (out), L15 DDR_A3 (out), L16 DDR_A4 (out), L17 DDR_A6 (out), L18 DDR_A5 (out), M10 NRST (io), M15 DDR_D14 (io), M16 DDR_D15 (io), M17 DDR_A0 (out), M18 DDR_A2 (out), N14 DDR_D13 (io), N15 DDR_D8 (io), N16 DDR_D9 (io), N17 DDR_D11 (io), N18 DDR_D12 (io), P14 DDR_D7 (io), P15 DDR_D3 (io), P16 DDR_D4 (io), P17 DDR_D5 (io), P18 DDR_D10 (io), R14 DDR_D6 (io), R15 DDR_D1 (io), R16 DDR_D0 (io), R17 HHSDMA (io), R18 HFSDMA (io), T11 BMS (in), T14 DDR_D2 (io), T17 HHSDPA (io), T18 HFSDPA (io), U15 HHSDPB/DHSDP (io), U16 HHSDMB/DHSDM (io), V11 XOUT (out), V12 XIN (in), V15 HFSDPB/DFSDP (io), V16 HFSDMB/DFSDM (io), V18 VBG (in)
part C pins: E4 JTAGSEL (in), N10 NTRST (in), P10 TMS (in), R10 TDI (in), R11 RTCK (out), U10 TCK (in), V10 TDO (out)
part D pins: C2 GNDANA (power), C16 GNDIOM (power), D3 GNDBU (power), D4 VDDBU (power), D16 VDDIOM1 (power), E3 VDDANA (power), E18 VDDCORE (power), F6 VDDIOM1 (power), G9 GNDCORE (power), G10 VDDIOM1 (power), G11 VDDIOM1 (power), G12 VDDCORE (power), G13 VDDCORE (power), H3 VDDIOP1 (power), H9 GNDCORE (power), H10 GNDIOP (power), H11 VDDCORE (power), H12 GNDIOM (power), H13 GNDIOM (power), J9 GNDCORE (power), J10 GNDCORE (power), J11 GNDIOP (power), J12 GNDIOM (power), J13 GNDIOM (power), K9 VDDIOP0 (power), K10 VDDIOP0 (power), K11 GNDIOM (power), K12 GNDIOM (power), K13 VDDIOM0 (power), L12 VDDIOM0 (power), L13 VDDIOM0 (power), M14 VDDIOM0 (power), P11 VDDPLLA (power), U11 VDDOSC (power), U12 GNDOSC (power), U17 GNDUTMI (power), U18 VDDUTMIC (power), V13 VDDPLLUTMI (power), V14 VDDIOP2 (power), V17 VDDUTMII (power)

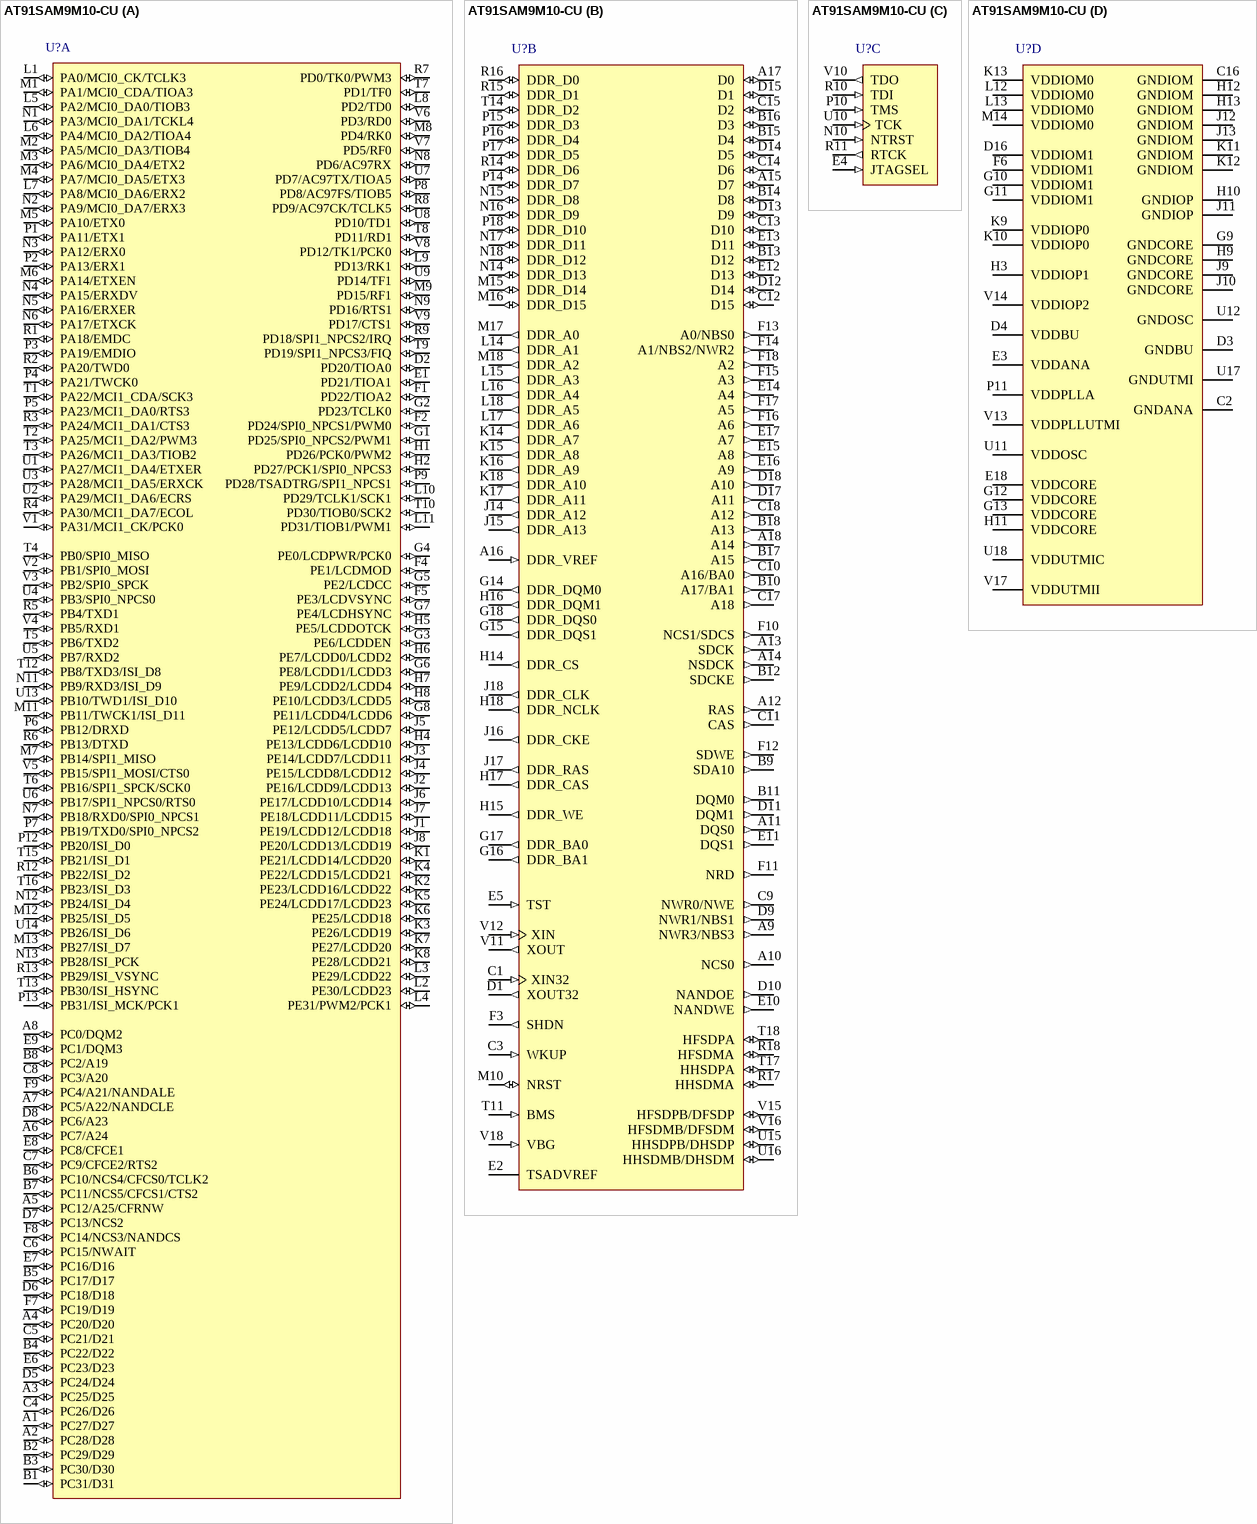
[diagram p36: symbol AT91SAM9M10-CU]

## AT91SAM9M10-CU
designator U?
AT91 ARM Thumb 32-bit Microcontroller, 64KB ROM, 64KB SRAM, EBI, E-MAC, HS USB, Video Decoder, 324-Pin TFBGA, Industrial Grade (-40°C to 85°C), Pb-Free; DatasheetVersion: revD, Sep-2011; PackageVersion: 2011; PackageReference: TFBGA324; PackageDescription: 324-Ball Low Profile Fine-Pitch BGA, 15 x 15 mm Body, 0.8 mm Pitch; Code_JEDEC: MO-210; ComponentLink1Description: Manufacturer URL; ComponentLink1URL: http://www.atmel.com/; ComponentLink2Description: AT91SAM9M10 Datasheet; ComponentLink2URL: http://www.atmel.com/dyn/resources/prod_documents/doc6355.pdf; ComponentLink3Description: AT91SAM9M10 Summary; ComponentLink3URL: http://www.atmel.com/dyn/resources/prod_documents/6355AS.pdf; ComponentLink4Description: ARM926EJ-S Reference Manual; ComponentLink4URL: http://www.atmel.com/dyn/resources/prod_documents/ARM_926EJS_TRM.pdf
footprint TFBGA324 (BGA, 324-Leads, Body 15x15mm, Pitch 0.8mm)
part A pins: A1 PC27/D27 (io), A2 PC28/D28 (io), A3 PC25/D25 (io), A4 PC20/D20 (io), A5 PC12/A25/CFRNW (io), A6 PC7/A24 (io), A7 PC5/A22/NANDCLE (io), A8 PC0/DQM2 (io), B1 PC31/D31 (io), B2 PC29/D29 (io), B3 PC30/D30 (io), B4 PC22/D22 (io), B5 PC17/D17 (io), B6 PC10/NCS4/CFCS0/TCLK2 (io), B7 PC11/NCS5/CFCS1/CTS2 (io), B8 PC2/A19 (io), C4 PC26/D26 (io), C5 PC21/D21 (io), C6 PC15/NWAIT (io), C7 PC9/CFCE2/RTS2 (io), C8 PC3/A20 (io), D2 PD20/TIOA0 (io), D5 PC24/D24 (io), D6 PC18/D18 (io), D7 PC13/NCS2 (io), D8 PC6/A23 (io), E1 PD21/TIOA1 (io), E6 PC23/D23 (io), E7 PC16/D16 (io), E8 PC8/CFCE1 (io), E9 PC1/DQM3 (io), F1 PD22/TIOA2 (io), F2 PD24/SPI0_NPCS1/PWM0 (io), F4 PE1/LCDMOD (io), F5 PE3/LCDVSYNC (io), F7 PC19/D19 (io), F8 PC14/NCS3/NANDCS (io), F9 PC4/A21/NANDALE (io), G1 PD25/SPI0_NPCS2/PWM1 (io), G2 PD23/TCLK0 (io), G3 PE6/LCDDEN (io), G4 PE0/LCDPWR/PCK0 (io), G5 PE2/LCDCC (io), G6 PE8/LCDD1/LCDD3 (io), G7 PE4/LCDHSYNC (io), G8 PE11/LCDD4/LCDD6 (io), H1 PD26/PCK0/PWM2 (io), H2 PD27/PCK1/SPI0_NPCS3 (io), H4 PE13/LCDD6/LCDD10 (io), H5 PE5/LCDDOTCK (io), H6 PE7/LCDD0/LCDD2 (io), H7 PE9/LCDD2/LCDD4 (io), H8 PE10/LCDD3/LCDD5 (io), J1 PE19/LCDD12/LCDD18 (io), J2 PE16/LCDD9/LCDD13 (io), J3 PE14/LCDD7/LCDD11 (io), J4 PE15/LCDD8/LCDD12 (io), J5 PE12/LCDD5/LCDD7 (io), J6 PE17/LCDD10/LCDD14 (io), J7 PE18/LCDD11/LCDD15 (io), J8 PE20/LCDD13/LCDD19 (io), K1 PE21/LCDD14/LCDD20 (io), K2 PE23/LCDD16/LCDD22 (io), K3 PE26/LCDD19 (io), K4 PE22/LCDD15/LCDD21 (io), K5 PE24/LCDD17/LCDD23 (io), K6 PE25/LCDD18 (io), K7 PE27/LCDD20 (io), K8 PE28/LCDD21 (io), L1 PA0/MCI0_CK/TCLK3 (io), L2 PE30/LCDD23 (io), L3 PE29/LCDD22 (io), L4 PE31/PWM2/PCK1 (io), L5 PA2/MCI0_DA0/TIOB3 (io), L6 PA4/MCI0_DA2/TIOA4 (io), L7 PA8/MCI0_DA6/ERX2 (io), L8 PD2/TD0 (io), L9 PD13/RK1 (io), L10 PD29/TCLK1/SCK1 (io), L11 PD31/TIOB1/PWM1 (io), M1 PA1/MCI0_CDA/TIOA3 (io), M2 PA5/MCI0_DA3/TIOB4 (io), M3 PA6/MCI0_DA4/ETX2 (io), M4 PA7/MCI0_DA5/ETX3 (io), M5 PA10/ETX0 (io), M6 PA14/ETXEN (io), M7 PB14/SPI1_MISO (io), M8 PD4/RK0 (io), M9 PD15/RF1 (io), M11 PB11/TWCK1/ISI_D11 (io), M12 PB25/ISI_D5 (io), M13 PB27/ISI_D7 (io), N1 PA3/MCI0_DA1/TCKL4 (io), N2 PA9/MCI0_DA7/ERX3 (io), N3 PA12/ERX0 (io), N4 PA15/ERXDV (io), N5 PA16/ERXER (io), N6 PA17/ETXCK (io), N7 PB18/RXD0/SPI0_NPCS1 (io), N8 PD6/AC97RX (io), N9 PD16/RTS1 (io), N11 PB9/RXD3/ISI_D9 (io), N12 PB24/ISI_D4 (io), N13 PB28/ISI_PCK (io), P1 PA11/ETX1 (io), P2 PA13/ERX1 (io), P3 PA19/EMDIO (io), P4 PA21/TWCK0 (io), P5 PA23/MCI1_DA0/RTS3 (io), P6 PB12/DRXD (io), P7 PB19/TXD0/SPI0_NPCS2 (io), P8 PD8/AC97FS/TIOB5 (io), P9 PD28/TSADTRG/SPI1_NPCS1 (io), P12 PB20/ISI_D0 (io), P13 PB31/ISI_MCK/PCK1 (io), R1 PA18/EMDC (io), R2 PA20/TWD0 (io), R3 PA24/MCI1_DA1/CTS3 (io), R4 PA30/MCI1_DA7/ECOL (io), R5 PB4/TXD1 (io), R6 PB13/DTXD (io), R7 PD0/TK0/PWM3 (io), R8 PD9/AC97CK/TCLK5 (io), R9 PD18/SPI1_NPCS2/IRQ (io), R12 PB22/ISI_D2 (io), R13 PB29/ISI_VSYNC (io), T1 PA22/MCI1_CDA/SCK3 (io), T2 PA25/MCI1_DA2/PWM3 (io), T3 PA26/MCI1_DA3/TIOB2 (io), T4 PB0/SPI0_MISO (io), T5 PB6/TXD2 (io), T6 PB16/SPI1_SPCK/SCK0 (io), T7 PD1/TF0 (io), T8 PD11/RD1 (io), T9 PD19/SPI1_NPCS3/FIQ (io), T10 PD30/TIOB0/SCK2 (io), T12 PB8/TXD3/ISI_D8 (io), T13 PB30/ISI_HSYNC (io), T15 PB21/ISI_D1 (io), T16 PB23/ISI_D3 (io), U1 PA27/MCI1_DA4/ETXER (io), U2 PA29/MCI1_DA6/ECRS (io), U3 PA28/MCI1_DA5/ERXCK (io), U4 PB3/SPI0_NPCS0 (io), U5 PB7/RXD2 (io), U6 PB17/SPI1_NPCS0/RTS0 (io), U7 PD7/AC97TX/TIOA5 (io), U8 PD10/TD1 (io), U9 PD14/TF1 (io), U13 PB10/TWD1/ISI_D10 (io), U14 PB26/ISI_D6 (io), V1 PA31/MCI1_CK/PCK0 (io), V2 PB1/SPI0_MOSI (io), V3 PB2/SPI0_SPCK (io), V4 PB5/RXD1 (io), V5 PB15/SPI1_MOSI/CTS0 (io), V6 PD3/RD0 (io), V7 PD5/RF0 (io), V8 PD12/TK1/PCK0 (io), V9 PD17/CTS1 (io)
part B pins: A9 NWR3/NBS3 (out), A10 NCS0 (out), A11 DQS0 (out), A12 RAS (out), A13 SDCK (out), A14 NSDCK (out), A15 D7 (io), A16 DDR_VREF (in), A17 D0 (io), A18 A14 (out), B9 SDA10 (out), B10 A17/BA1 (out), B11 DQM0 (out), B12 SDCKE (out), B13 D12 (io), B14 D8 (io), B15 D4 (io), B16 D3 (io), B17 A15 (out), B18 A13 (out), C1 XIN32 (in), C3 WKUP (in), C9 NWR0/NWE (out), C10 A16/BA0 (out), C11 CAS (out), C12 D15 (io), C13 D10 (io), C14 D6 (io), C15 D2 (io), C17 A18 (out), C18 A12 (out), D1 XOUT32 (out), D9 NWR1/NBS1 (out), D10 NANDOE (out), D11 DQM1 (out), D12 D14 (io), D13 D9 (io), D14 D5 (io), D15 D1 (io), D17 A11 (out), D18 A10 (out), E2 TSADVREF (power), E5 TST (in), E10 NANDWE (out), E11 DQS1 (out), E12 D13 (io), E13 D11 (io), E14 A4 (out), E15 A8 (out), E16 A9 (out), E17 A7 (out), F3 SHDN (out), F10 NCS1/SDCS (out), F11 NRD (out), F12 SDWE (out), F13 A0/NBS0 (out), F14 A1/NBS2/NWR2 (out), F15 A3 (out), F16 A6 (out), F17 A5 (out), F18 A2 (out), G14 DDR_DQM0 (out), G15 DDR_DQS1 (out), G16 DDR_BA1 (out), G17 DDR_BA0 (out), G18 DDR_DQS0 (out), H14 DDR_CS (out), H15 DDR_WE (out), H16 DDR_DQM1 (out), H17 DDR_CAS (out), H18 DDR_NCLK (out), J14 DDR_A12 (out), J15 DDR_A13 (out), J16 DDR_CKE (out), J17 DDR_RAS (out), J18 DDR_CLK (out), K14 DDR_A7 (out), K15 DDR_A8 (out), K16 DDR_A9 (out), K17 DDR_A11 (out), K18 DDR_A10 (out), L14 DDR_A1 (out), L15 DDR_A3 (out), L16 DDR_A4 (out), L17 DDR_A6 (out), L18 DDR_A5 (out), M10 NRST (io), M15 DDR_D14 (io), M16 DDR_D15 (io), M17 DDR_A0 (out), M18 DDR_A2 (out), N14 DDR_D13 (io), N15 DDR_D8 (io), N16 DDR_D9 (io), N17 DDR_D11 (io), N18 DDR_D12 (io), P14 DDR_D7 (io), P15 DDR_D3 (io), P16 DDR_D4 (io), P17 DDR_D5 (io), P18 DDR_D10 (io), R14 DDR_D6 (io), R15 DDR_D1 (io), R16 DDR_D0 (io), R17 HHSDMA (io), R18 HFSDMA (io), T11 BMS (in), T14 DDR_D2 (io), T17 HHSDPA (io), T18 HFSDPA (io), U15 HHSDPB/DHSDP (io), U16 HHSDMB/DHSDM (io), V11 XOUT (out), V12 XIN (in), V15 HFSDPB/DFSDP (io), V16 HFSDMB/DFSDM (io), V18 VBG (in)
part C pins: E4 JTAGSEL (in), N10 NTRST (in), P10 TMS (in), R10 TDI (in), R11 RTCK (out), U10 TCK (in), V10 TDO (out)
part D pins: C2 GNDANA (power), C16 GNDIOM (power), D3 GNDBU (power), D4 VDDBU (power), D16 VDDIOM1 (power), E3 VDDANA (power), E18 VDDCORE (power), F6 VDDIOM1 (power), G9 GNDCORE (power), G10 VDDIOM1 (power), G11 VDDIOM1 (power), G12 VDDCORE (power), G13 VDDCORE (power), H3 VDDIOP1 (power), H9 GNDCORE (power), H10 GNDIOP (power), H11 VDDCORE (power), H12 GNDIOM (power), H13 GNDIOM (power), J9 GNDCORE (power), J10 GNDCORE (power), J11 GNDIOP (power), J12 GNDIOM (power), J13 GNDIOM (power), K9 VDDIOP0 (power), K10 VDDIOP0 (power), K11 GNDIOM (power), K12 GNDIOM (power), K13 VDDIOM0 (power), L12 VDDIOM0 (power), L13 VDDIOM0 (power), M14 VDDIOM0 (power), P11 VDDPLLA (power), U11 VDDOSC (power), U12 GNDOSC (power), U17 GNDUTMI (power), U18 VDDUTMIC (power), V13 VDDPLLUTMI (power), V14 VDDIOP2 (power), V17 VDDUTMII (power)

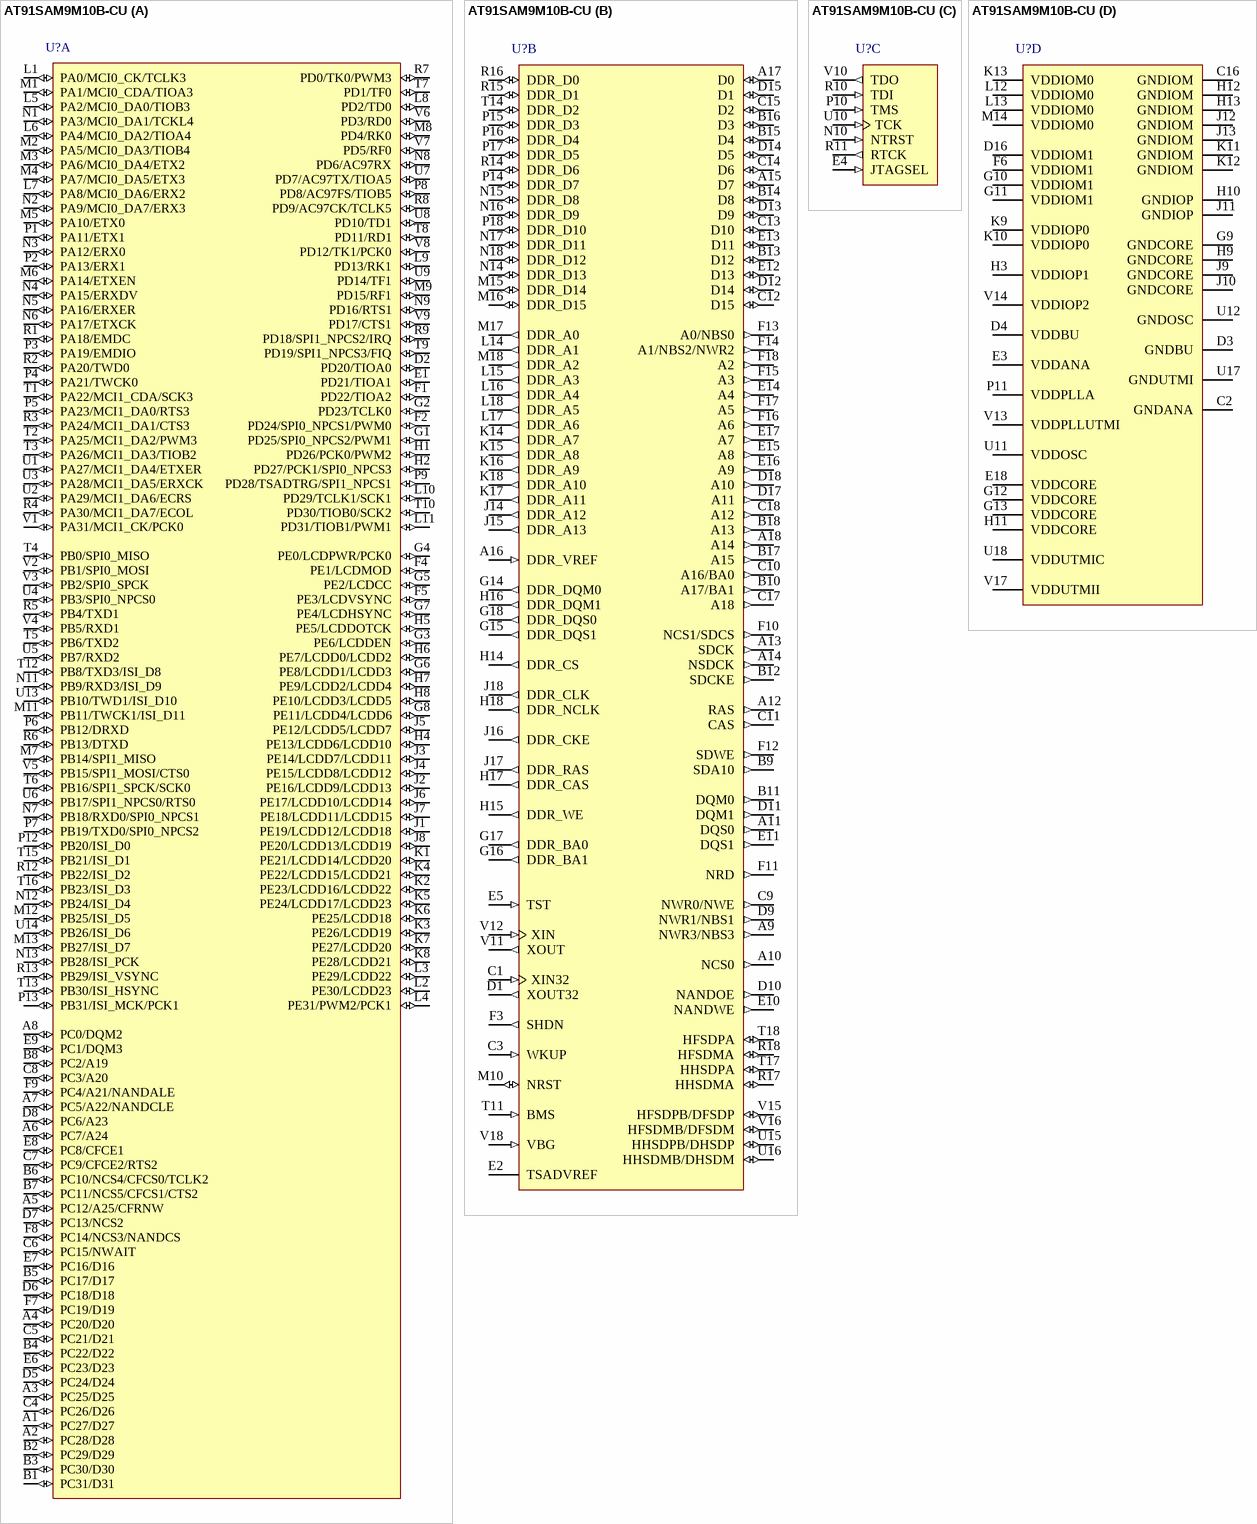
[diagram p37: symbol AT91SAM9M10B-CU]

## AT91SAM9M10B-CU
designator U?
AT91 ARM Thumb 32-bit Microcontroller, 64KB ROM, 64KB SRAM, EBI, E-MAC, HS USB, Video Decoder, 324-Pin TFBGA, Industrial Grade (-40°C to 85°C), Pb-Free; DatasheetVersion: revD, Sep-2011; PackageVersion: 2011; PackageReference: TFBGA324; PackageDescription: 324-Ball Low Profile Fine-Pitch BGA, 15 x 15 mm Body, 0.8 mm Pitch; Code_JEDEC: MO-210; ComponentLink1Description: Manufacturer URL; ComponentLink1URL: http://www.atmel.com/; ComponentLink2Description: AT91SAM9M10 Datasheet; ComponentLink2URL: http://www.atmel.com/dyn/resources/prod_documents/doc6355.pdf; ComponentLink3Description: AT91SAM9M10 Summary; ComponentLink3URL: http://www.atmel.com/dyn/resources/prod_documents/6355AS.pdf; ComponentLink4Description: ARM926EJ-S Reference Manual; ComponentLink4URL: http://www.atmel.com/dyn/resources/prod_documents/ARM_926EJS_TRM.pdf
footprint TFBGA324 (BGA, 324-Leads, Body 15x15mm, Pitch 0.8mm)
part A pins: A1 PC27/D27 (io), A2 PC28/D28 (io), A3 PC25/D25 (io), A4 PC20/D20 (io), A5 PC12/A25/CFRNW (io), A6 PC7/A24 (io), A7 PC5/A22/NANDCLE (io), A8 PC0/DQM2 (io), B1 PC31/D31 (io), B2 PC29/D29 (io), B3 PC30/D30 (io), B4 PC22/D22 (io), B5 PC17/D17 (io), B6 PC10/NCS4/CFCS0/TCLK2 (io), B7 PC11/NCS5/CFCS1/CTS2 (io), B8 PC2/A19 (io), C4 PC26/D26 (io), C5 PC21/D21 (io), C6 PC15/NWAIT (io), C7 PC9/CFCE2/RTS2 (io), C8 PC3/A20 (io), D2 PD20/TIOA0 (io), D5 PC24/D24 (io), D6 PC18/D18 (io), D7 PC13/NCS2 (io), D8 PC6/A23 (io), E1 PD21/TIOA1 (io), E6 PC23/D23 (io), E7 PC16/D16 (io), E8 PC8/CFCE1 (io), E9 PC1/DQM3 (io), F1 PD22/TIOA2 (io), F2 PD24/SPI0_NPCS1/PWM0 (io), F4 PE1/LCDMOD (io), F5 PE3/LCDVSYNC (io), F7 PC19/D19 (io), F8 PC14/NCS3/NANDCS (io), F9 PC4/A21/NANDALE (io), G1 PD25/SPI0_NPCS2/PWM1 (io), G2 PD23/TCLK0 (io), G3 PE6/LCDDEN (io), G4 PE0/LCDPWR/PCK0 (io), G5 PE2/LCDCC (io), G6 PE8/LCDD1/LCDD3 (io), G7 PE4/LCDHSYNC (io), G8 PE11/LCDD4/LCDD6 (io), H1 PD26/PCK0/PWM2 (io), H2 PD27/PCK1/SPI0_NPCS3 (io), H4 PE13/LCDD6/LCDD10 (io), H5 PE5/LCDDOTCK (io), H6 PE7/LCDD0/LCDD2 (io), H7 PE9/LCDD2/LCDD4 (io), H8 PE10/LCDD3/LCDD5 (io), J1 PE19/LCDD12/LCDD18 (io), J2 PE16/LCDD9/LCDD13 (io), J3 PE14/LCDD7/LCDD11 (io), J4 PE15/LCDD8/LCDD12 (io), J5 PE12/LCDD5/LCDD7 (io), J6 PE17/LCDD10/LCDD14 (io), J7 PE18/LCDD11/LCDD15 (io), J8 PE20/LCDD13/LCDD19 (io), K1 PE21/LCDD14/LCDD20 (io), K2 PE23/LCDD16/LCDD22 (io), K3 PE26/LCDD19 (io), K4 PE22/LCDD15/LCDD21 (io), K5 PE24/LCDD17/LCDD23 (io), K6 PE25/LCDD18 (io), K7 PE27/LCDD20 (io), K8 PE28/LCDD21 (io), L1 PA0/MCI0_CK/TCLK3 (io), L2 PE30/LCDD23 (io), L3 PE29/LCDD22 (io), L4 PE31/PWM2/PCK1 (io), L5 PA2/MCI0_DA0/TIOB3 (io), L6 PA4/MCI0_DA2/TIOA4 (io), L7 PA8/MCI0_DA6/ERX2 (io), L8 PD2/TD0 (io), L9 PD13/RK1 (io), L10 PD29/TCLK1/SCK1 (io), L11 PD31/TIOB1/PWM1 (io), M1 PA1/MCI0_CDA/TIOA3 (io), M2 PA5/MCI0_DA3/TIOB4 (io), M3 PA6/MCI0_DA4/ETX2 (io), M4 PA7/MCI0_DA5/ETX3 (io), M5 PA10/ETX0 (io), M6 PA14/ETXEN (io), M7 PB14/SPI1_MISO (io), M8 PD4/RK0 (io), M9 PD15/RF1 (io), M11 PB11/TWCK1/ISI_D11 (io), M12 PB25/ISI_D5 (io), M13 PB27/ISI_D7 (io), N1 PA3/MCI0_DA1/TCKL4 (io), N2 PA9/MCI0_DA7/ERX3 (io), N3 PA12/ERX0 (io), N4 PA15/ERXDV (io), N5 PA16/ERXER (io), N6 PA17/ETXCK (io), N7 PB18/RXD0/SPI0_NPCS1 (io), N8 PD6/AC97RX (io), N9 PD16/RTS1 (io), N11 PB9/RXD3/ISI_D9 (io), N12 PB24/ISI_D4 (io), N13 PB28/ISI_PCK (io), P1 PA11/ETX1 (io), P2 PA13/ERX1 (io), P3 PA19/EMDIO (io), P4 PA21/TWCK0 (io), P5 PA23/MCI1_DA0/RTS3 (io), P6 PB12/DRXD (io), P7 PB19/TXD0/SPI0_NPCS2 (io), P8 PD8/AC97FS/TIOB5 (io), P9 PD28/TSADTRG/SPI1_NPCS1 (io), P12 PB20/ISI_D0 (io), P13 PB31/ISI_MCK/PCK1 (io), R1 PA18/EMDC (io), R2 PA20/TWD0 (io), R3 PA24/MCI1_DA1/CTS3 (io), R4 PA30/MCI1_DA7/ECOL (io), R5 PB4/TXD1 (io), R6 PB13/DTXD (io), R7 PD0/TK0/PWM3 (io), R8 PD9/AC97CK/TCLK5 (io), R9 PD18/SPI1_NPCS2/IRQ (io), R12 PB22/ISI_D2 (io), R13 PB29/ISI_VSYNC (io), T1 PA22/MCI1_CDA/SCK3 (io), T2 PA25/MCI1_DA2/PWM3 (io), T3 PA26/MCI1_DA3/TIOB2 (io), T4 PB0/SPI0_MISO (io), T5 PB6/TXD2 (io), T6 PB16/SPI1_SPCK/SCK0 (io), T7 PD1/TF0 (io), T8 PD11/RD1 (io), T9 PD19/SPI1_NPCS3/FIQ (io), T10 PD30/TIOB0/SCK2 (io), T12 PB8/TXD3/ISI_D8 (io), T13 PB30/ISI_HSYNC (io), T15 PB21/ISI_D1 (io), T16 PB23/ISI_D3 (io), U1 PA27/MCI1_DA4/ETXER (io), U2 PA29/MCI1_DA6/ECRS (io), U3 PA28/MCI1_DA5/ERXCK (io), U4 PB3/SPI0_NPCS0 (io), U5 PB7/RXD2 (io), U6 PB17/SPI1_NPCS0/RTS0 (io), U7 PD7/AC97TX/TIOA5 (io), U8 PD10/TD1 (io), U9 PD14/TF1 (io), U13 PB10/TWD1/ISI_D10 (io), U14 PB26/ISI_D6 (io), V1 PA31/MCI1_CK/PCK0 (io), V2 PB1/SPI0_MOSI (io), V3 PB2/SPI0_SPCK (io), V4 PB5/RXD1 (io), V5 PB15/SPI1_MOSI/CTS0 (io), V6 PD3/RD0 (io), V7 PD5/RF0 (io), V8 PD12/TK1/PCK0 (io), V9 PD17/CTS1 (io)
part B pins: A9 NWR3/NBS3 (out), A10 NCS0 (out), A11 DQS0 (out), A12 RAS (out), A13 SDCK (out), A14 NSDCK (out), A15 D7 (io), A16 DDR_VREF (in), A17 D0 (io), A18 A14 (out), B9 SDA10 (out), B10 A17/BA1 (out), B11 DQM0 (out), B12 SDCKE (out), B13 D12 (io), B14 D8 (io), B15 D4 (io), B16 D3 (io), B17 A15 (out), B18 A13 (out), C1 XIN32 (in), C3 WKUP (in), C9 NWR0/NWE (out), C10 A16/BA0 (out), C11 CAS (out), C12 D15 (io), C13 D10 (io), C14 D6 (io), C15 D2 (io), C17 A18 (out), C18 A12 (out), D1 XOUT32 (out), D9 NWR1/NBS1 (out), D10 NANDOE (out), D11 DQM1 (out), D12 D14 (io), D13 D9 (io), D14 D5 (io), D15 D1 (io), D17 A11 (out), D18 A10 (out), E2 TSADVREF (power), E5 TST (in), E10 NANDWE (out), E11 DQS1 (out), E12 D13 (io), E13 D11 (io), E14 A4 (out), E15 A8 (out), E16 A9 (out), E17 A7 (out), F3 SHDN (out), F10 NCS1/SDCS (out), F11 NRD (out), F12 SDWE (out), F13 A0/NBS0 (out), F14 A1/NBS2/NWR2 (out), F15 A3 (out), F16 A6 (out), F17 A5 (out), F18 A2 (out), G14 DDR_DQM0 (out), G15 DDR_DQS1 (out), G16 DDR_BA1 (out), G17 DDR_BA0 (out), G18 DDR_DQS0 (out), H14 DDR_CS (out), H15 DDR_WE (out), H16 DDR_DQM1 (out), H17 DDR_CAS (out), H18 DDR_NCLK (out), J14 DDR_A12 (out), J15 DDR_A13 (out), J16 DDR_CKE (out), J17 DDR_RAS (out), J18 DDR_CLK (out), K14 DDR_A7 (out), K15 DDR_A8 (out), K16 DDR_A9 (out), K17 DDR_A11 (out), K18 DDR_A10 (out), L14 DDR_A1 (out), L15 DDR_A3 (out), L16 DDR_A4 (out), L17 DDR_A6 (out), L18 DDR_A5 (out), M10 NRST (io), M15 DDR_D14 (io), M16 DDR_D15 (io), M17 DDR_A0 (out), M18 DDR_A2 (out), N14 DDR_D13 (io), N15 DDR_D8 (io), N16 DDR_D9 (io), N17 DDR_D11 (io), N18 DDR_D12 (io), P14 DDR_D7 (io), P15 DDR_D3 (io), P16 DDR_D4 (io), P17 DDR_D5 (io), P18 DDR_D10 (io), R14 DDR_D6 (io), R15 DDR_D1 (io), R16 DDR_D0 (io), R17 HHSDMA (io), R18 HFSDMA (io), T11 BMS (in), T14 DDR_D2 (io), T17 HHSDPA (io), T18 HFSDPA (io), U15 HHSDPB/DHSDP (io), U16 HHSDMB/DHSDM (io), V11 XOUT (out), V12 XIN (in), V15 HFSDPB/DFSDP (io), V16 HFSDMB/DFSDM (io), V18 VBG (in)
part C pins: E4 JTAGSEL (in), N10 NTRST (in), P10 TMS (in), R10 TDI (in), R11 RTCK (out), U10 TCK (in), V10 TDO (out)
part D pins: C2 GNDANA (power), C16 GNDIOM (power), D3 GNDBU (power), D4 VDDBU (power), D16 VDDIOM1 (power), E3 VDDANA (power), E18 VDDCORE (power), F6 VDDIOM1 (power), G9 GNDCORE (power), G10 VDDIOM1 (power), G11 VDDIOM1 (power), G12 VDDCORE (power), G13 VDDCORE (power), H3 VDDIOP1 (power), H9 GNDCORE (power), H10 GNDIOP (power), H11 VDDCORE (power), H12 GNDIOM (power), H13 GNDIOM (power), J9 GNDCORE (power), J10 GNDCORE (power), J11 GNDIOP (power), J12 GNDIOM (power), J13 GNDIOM (power), K9 VDDIOP0 (power), K10 VDDIOP0 (power), K11 GNDIOM (power), K12 GNDIOM (power), K13 VDDIOM0 (power), L12 VDDIOM0 (power), L13 VDDIOM0 (power), M14 VDDIOM0 (power), P11 VDDPLLA (power), U11 VDDOSC (power), U12 GNDOSC (power), U17 GNDUTMI (power), U18 VDDUTMIC (power), V13 VDDPLLUTMI (power), V14 VDDIOP2 (power), V17 VDDUTMII (power)

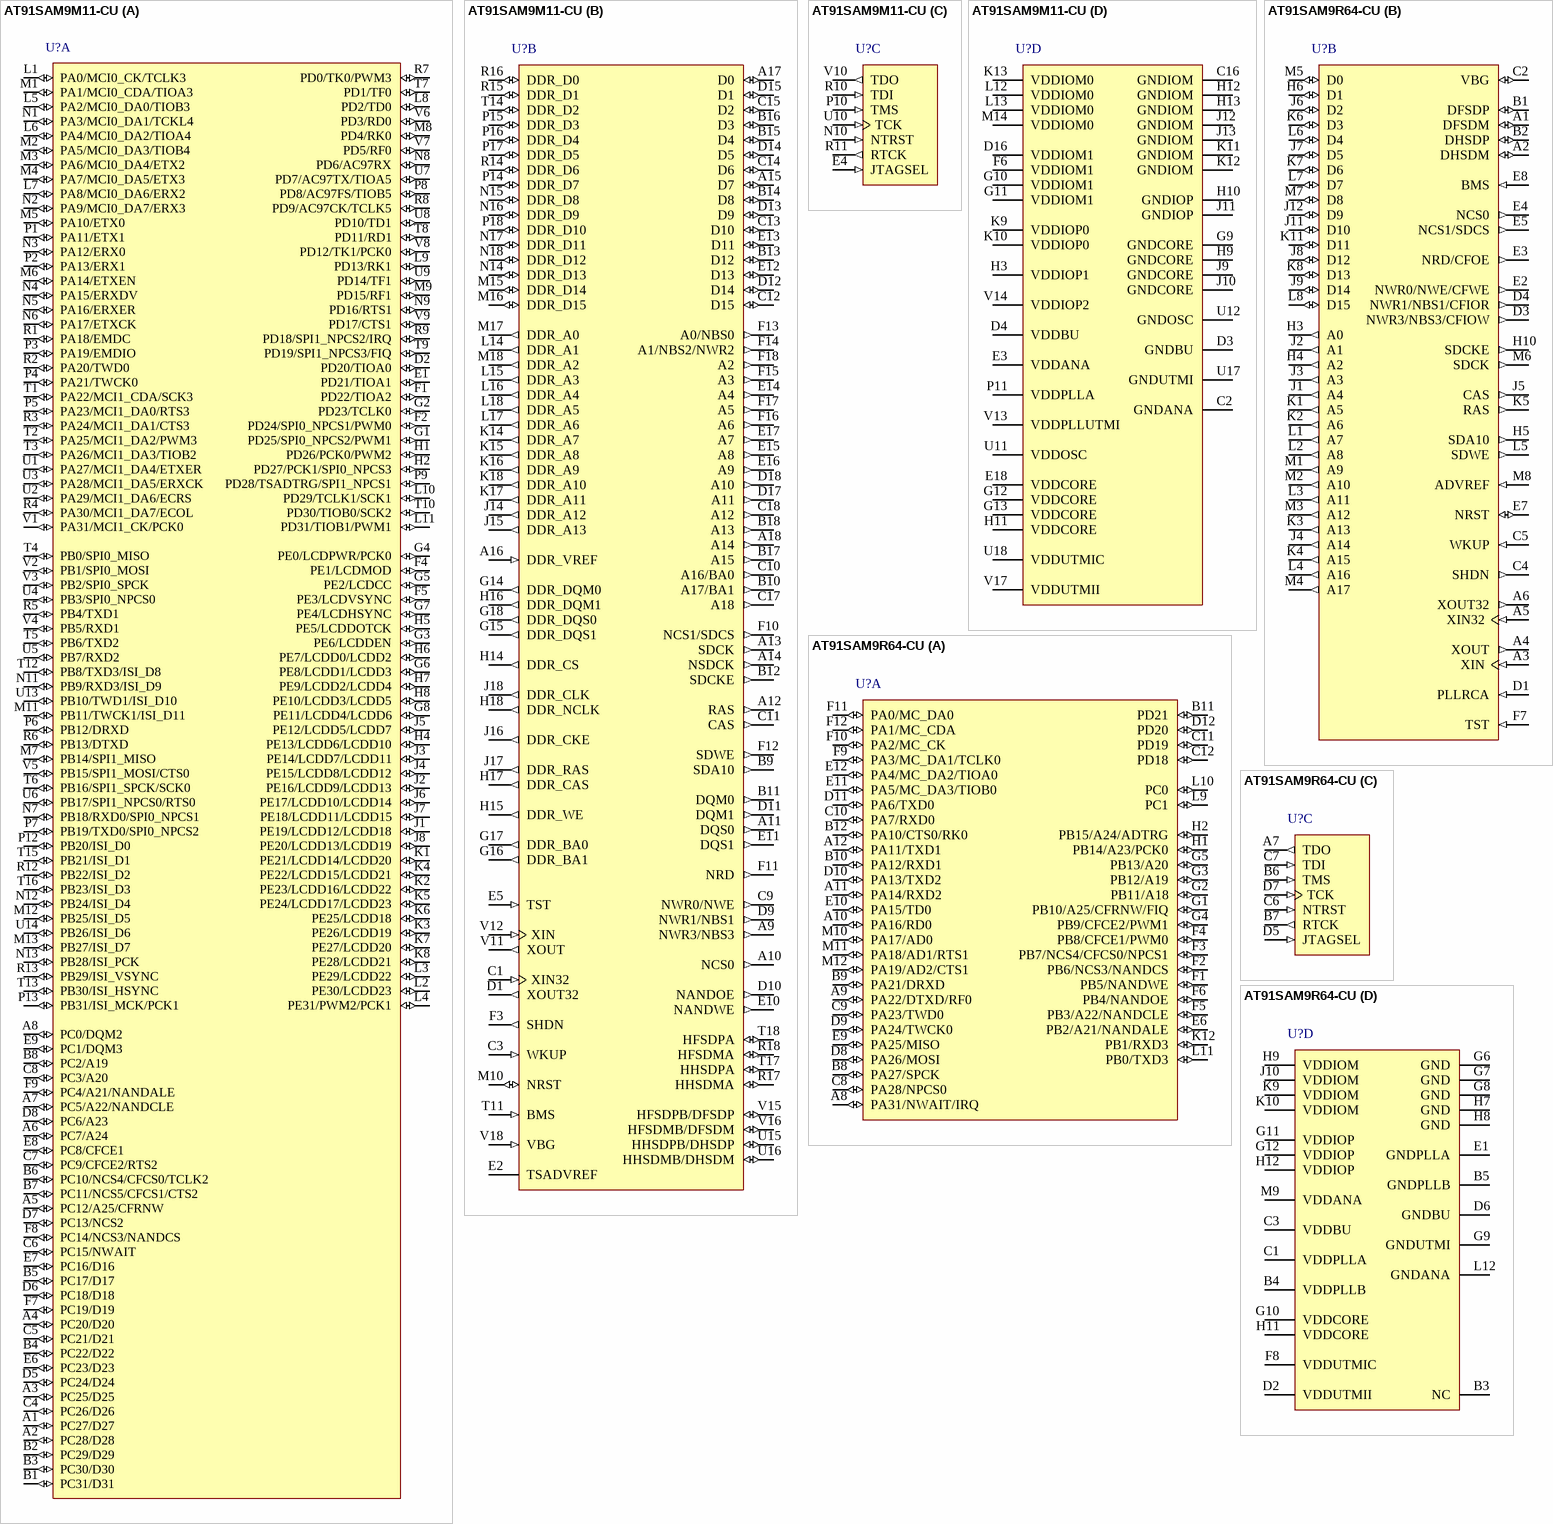
[diagram p38: symbols AT91SAM9M11-CU to AT91SAM9R64-CU]

## AT91SAM9M11-CU
designator U?
AT91 ARM Thumb 32-bit Microcontroller, 64KB ROM, 64KB SRAM, EBI, E-MAC, HS USB, 256-bit AES, Video Decoder, 324-Pin TFBGA, Industrial Grade (-40°C to 85°C), Pb-Free; DatasheetVersion: revCS, Apr-2011; PackageVersion: 2011; PackageReference: TFBGA324; PackageDescription: 324-Ball Low Profile Fine-Pitch BGA, 15 x 15 mm Body, 0.8 mm Pitch; Code_JEDEC: MO-210; ComponentLink1Description: Manufacturer URL; ComponentLink1URL: http://www.atmel.com/; ComponentLink2Description: AT91SAM9M11 Summary; ComponentLink2URL: http://www.atmel.com/dyn/resources/prod_documents/6437S.pdf; ComponentLink3Description: ARM926EJ-S Reference Manual; ComponentLink3URL: http://www.atmel.com/dyn/resources/prod_documents/ARM_926EJS_TRM.pdf
footprint TFBGA324 (BGA, 324-Leads, Body 15x15mm, Pitch 0.8mm)
part A pins: A1 PC27/D27 (io), A2 PC28/D28 (io), A3 PC25/D25 (io), A4 PC20/D20 (io), A5 PC12/A25/CFRNW (io), A6 PC7/A24 (io), A7 PC5/A22/NANDCLE (io), A8 PC0/DQM2 (io), B1 PC31/D31 (io), B2 PC29/D29 (io), B3 PC30/D30 (io), B4 PC22/D22 (io), B5 PC17/D17 (io), B6 PC10/NCS4/CFCS0/TCLK2 (io), B7 PC11/NCS5/CFCS1/CTS2 (io), B8 PC2/A19 (io), C4 PC26/D26 (io), C5 PC21/D21 (io), C6 PC15/NWAIT (io), C7 PC9/CFCE2/RTS2 (io), C8 PC3/A20 (io), D2 PD20/TIOA0 (io), D5 PC24/D24 (io), D6 PC18/D18 (io), D7 PC13/NCS2 (io), D8 PC6/A23 (io), E1 PD21/TIOA1 (io), E6 PC23/D23 (io), E7 PC16/D16 (io), E8 PC8/CFCE1 (io), E9 PC1/DQM3 (io), F1 PD22/TIOA2 (io), F2 PD24/SPI0_NPCS1/PWM0 (io), F4 PE1/LCDMOD (io), F5 PE3/LCDVSYNC (io), F7 PC19/D19 (io), F8 PC14/NCS3/NANDCS (io), F9 PC4/A21/NANDALE (io), G1 PD25/SPI0_NPCS2/PWM1 (io), G2 PD23/TCLK0 (io), G3 PE6/LCDDEN (io), G4 PE0/LCDPWR/PCK0 (io), G5 PE2/LCDCC (io), G6 PE8/LCDD1/LCDD3 (io), G7 PE4/LCDHSYNC (io), G8 PE11/LCDD4/LCDD6 (io), H1 PD26/PCK0/PWM2 (io), H2 PD27/PCK1/SPI0_NPCS3 (io), H4 PE13/LCDD6/LCDD10 (io), H5 PE5/LCDDOTCK (io), H6 PE7/LCDD0/LCDD2 (io), H7 PE9/LCDD2/LCDD4 (io), H8 PE10/LCDD3/LCDD5 (io), J1 PE19/LCDD12/LCDD18 (io), J2 PE16/LCDD9/LCDD13 (io), J3 PE14/LCDD7/LCDD11 (io), J4 PE15/LCDD8/LCDD12 (io), J5 PE12/LCDD5/LCDD7 (io), J6 PE17/LCDD10/LCDD14 (io), J7 PE18/LCDD11/LCDD15 (io), J8 PE20/LCDD13/LCDD19 (io), K1 PE21/LCDD14/LCDD20 (io), K2 PE23/LCDD16/LCDD22 (io), K3 PE26/LCDD19 (io), K4 PE22/LCDD15/LCDD21 (io), K5 PE24/LCDD17/LCDD23 (io), K6 PE25/LCDD18 (io), K7 PE27/LCDD20 (io), K8 PE28/LCDD21 (io), L1 PA0/MCI0_CK/TCLK3 (io), L2 PE30/LCDD23 (io), L3 PE29/LCDD22 (io), L4 PE31/PWM2/PCK1 (io), L5 PA2/MCI0_DA0/TIOB3 (io), L6 PA4/MCI0_DA2/TIOA4 (io), L7 PA8/MCI0_DA6/ERX2 (io), L8 PD2/TD0 (io), L9 PD13/RK1 (io), L10 PD29/TCLK1/SCK1 (io), L11 PD31/TIOB1/PWM1 (io), M1 PA1/MCI0_CDA/TIOA3 (io), M2 PA5/MCI0_DA3/TIOB4 (io), M3 PA6/MCI0_DA4/ETX2 (io), M4 PA7/MCI0_DA5/ETX3 (io), M5 PA10/ETX0 (io), M6 PA14/ETXEN (io), M7 PB14/SPI1_MISO (io), M8 PD4/RK0 (io), M9 PD15/RF1 (io), M11 PB11/TWCK1/ISI_D11 (io), M12 PB25/ISI_D5 (io), M13 PB27/ISI_D7 (io), N1 PA3/MCI0_DA1/TCKL4 (io), N2 PA9/MCI0_DA7/ERX3 (io), N3 PA12/ERX0 (io), N4 PA15/ERXDV (io), N5 PA16/ERXER (io), N6 PA17/ETXCK (io), N7 PB18/RXD0/SPI0_NPCS1 (io), N8 PD6/AC97RX (io), N9 PD16/RTS1 (io), N11 PB9/RXD3/ISI_D9 (io), N12 PB24/ISI_D4 (io), N13 PB28/ISI_PCK (io), P1 PA11/ETX1 (io), P2 PA13/ERX1 (io), P3 PA19/EMDIO (io), P4 PA21/TWCK0 (io), P5 PA23/MCI1_DA0/RTS3 (io), P6 PB12/DRXD (io), P7 PB19/TXD0/SPI0_NPCS2 (io), P8 PD8/AC97FS/TIOB5 (io), P9 PD28/TSADTRG/SPI1_NPCS1 (io), P12 PB20/ISI_D0 (io), P13 PB31/ISI_MCK/PCK1 (io), R1 PA18/EMDC (io), R2 PA20/TWD0 (io), R3 PA24/MCI1_DA1/CTS3 (io), R4 PA30/MCI1_DA7/ECOL (io), R5 PB4/TXD1 (io), R6 PB13/DTXD (io), R7 PD0/TK0/PWM3 (io), R8 PD9/AC97CK/TCLK5 (io), R9 PD18/SPI1_NPCS2/IRQ (io), R12 PB22/ISI_D2 (io), R13 PB29/ISI_VSYNC (io), T1 PA22/MCI1_CDA/SCK3 (io), T2 PA25/MCI1_DA2/PWM3 (io), T3 PA26/MCI1_DA3/TIOB2 (io), T4 PB0/SPI0_MISO (io), T5 PB6/TXD2 (io), T6 PB16/SPI1_SPCK/SCK0 (io), T7 PD1/TF0 (io), T8 PD11/RD1 (io), T9 PD19/SPI1_NPCS3/FIQ (io), T10 PD30/TIOB0/SCK2 (io), T12 PB8/TXD3/ISI_D8 (io), T13 PB30/ISI_HSYNC (io), T15 PB21/ISI_D1 (io), T16 PB23/ISI_D3 (io), U1 PA27/MCI1_DA4/ETXER (io), U2 PA29/MCI1_DA6/ECRS (io), U3 PA28/MCI1_DA5/ERXCK (io), U4 PB3/SPI0_NPCS0 (io), U5 PB7/RXD2 (io), U6 PB17/SPI1_NPCS0/RTS0 (io), U7 PD7/AC97TX/TIOA5 (io), U8 PD10/TD1 (io), U9 PD14/TF1 (io), U13 PB10/TWD1/ISI_D10 (io), U14 PB26/ISI_D6 (io), V1 PA31/MCI1_CK/PCK0 (io), V2 PB1/SPI0_MOSI (io), V3 PB2/SPI0_SPCK (io), V4 PB5/RXD1 (io), V5 PB15/SPI1_MOSI/CTS0 (io), V6 PD3/RD0 (io), V7 PD5/RF0 (io), V8 PD12/TK1/PCK0 (io), V9 PD17/CTS1 (io)
part B pins: A9 NWR3/NBS3 (out), A10 NCS0 (out), A11 DQS0 (out), A12 RAS (out), A13 SDCK (out), A14 NSDCK (out), A15 D7 (io), A16 DDR_VREF (in), A17 D0 (io), A18 A14 (out), B9 SDA10 (out), B10 A17/BA1 (out), B11 DQM0 (out), B12 SDCKE (out), B13 D12 (io), B14 D8 (io), B15 D4 (io), B16 D3 (io), B17 A15 (out), B18 A13 (out), C1 XIN32 (in), C3 WKUP (in), C9 NWR0/NWE (out), C10 A16/BA0 (out), C11 CAS (out), C12 D15 (io), C13 D10 (io), C14 D6 (io), C15 D2 (io), C17 A18 (out), C18 A12 (out), D1 XOUT32 (out), D9 NWR1/NBS1 (out), D10 NANDOE (out), D11 DQM1 (out), D12 D14 (io), D13 D9 (io), D14 D5 (io), D15 D1 (io), D17 A11 (out), D18 A10 (out), E2 TSADVREF (power), E5 TST (in), E10 NANDWE (out), E11 DQS1 (out), E12 D13 (io), E13 D11 (io), E14 A4 (out), E15 A8 (out), E16 A9 (out), E17 A7 (out), F3 SHDN (out), F10 NCS1/SDCS (out), F11 NRD (out), F12 SDWE (out), F13 A0/NBS0 (out), F14 A1/NBS2/NWR2 (out), F15 A3 (out), F16 A6 (out), F17 A5 (out), F18 A2 (out), G14 DDR_DQM0 (out), G15 DDR_DQS1 (out), G16 DDR_BA1 (out), G17 DDR_BA0 (out), G18 DDR_DQS0 (out), H14 DDR_CS (out), H15 DDR_WE (out), H16 DDR_DQM1 (out), H17 DDR_CAS (out), H18 DDR_NCLK (out), J14 DDR_A12 (out), J15 DDR_A13 (out), J16 DDR_CKE (out), J17 DDR_RAS (out), J18 DDR_CLK (out), K14 DDR_A7 (out), K15 DDR_A8 (out), K16 DDR_A9 (out), K17 DDR_A11 (out), K18 DDR_A10 (out), L14 DDR_A1 (out), L15 DDR_A3 (out), L16 DDR_A4 (out), L17 DDR_A6 (out), L18 DDR_A5 (out), M10 NRST (io), M15 DDR_D14 (io), M16 DDR_D15 (io), M17 DDR_A0 (out), M18 DDR_A2 (out), N14 DDR_D13 (io), N15 DDR_D8 (io), N16 DDR_D9 (io), N17 DDR_D11 (io), N18 DDR_D12 (io), P14 DDR_D7 (io), P15 DDR_D3 (io), P16 DDR_D4 (io), P17 DDR_D5 (io), P18 DDR_D10 (io), R14 DDR_D6 (io), R15 DDR_D1 (io), R16 DDR_D0 (io), R17 HHSDMA (io), R18 HFSDMA (io), T11 BMS (in), T14 DDR_D2 (io), T17 HHSDPA (io), T18 HFSDPA (io), U15 HHSDPB/DHSDP (io), U16 HHSDMB/DHSDM (io), V11 XOUT (out), V12 XIN (in), V15 HFSDPB/DFSDP (io), V16 HFSDMB/DFSDM (io), V18 VBG (in)
part C pins: E4 JTAGSEL (in), N10 NTRST (in), P10 TMS (in), R10 TDI (in), R11 RTCK (out), U10 TCK (in), V10 TDO (out)
part D pins: C2 GNDANA (power), C16 GNDIOM (power), D3 GNDBU (power), D4 VDDBU (power), D16 VDDIOM1 (power), E3 VDDANA (power), E18 VDDCORE (power), F6 VDDIOM1 (power), G9 GNDCORE (power), G10 VDDIOM1 (power), G11 VDDIOM1 (power), G12 VDDCORE (power), G13 VDDCORE (power), H3 VDDIOP1 (power), H9 GNDCORE (power), H10 GNDIOP (power), H11 VDDCORE (power), H12 GNDIOM (power), H13 GNDIOM (power), J9 GNDCORE (power), J10 GNDCORE (power), J11 GNDIOP (power), J12 GNDIOM (power), J13 GNDIOM (power), K9 VDDIOP0 (power), K10 VDDIOP0 (power), K11 GNDIOM (power), K12 GNDIOM (power), K13 VDDIOM0 (power), L12 VDDIOM0 (power), L13 VDDIOM0 (power), M14 VDDIOM0 (power), P11 VDDPLLA (power), U11 VDDOSC (power), U12 GNDOSC (power), U17 GNDUTMI (power), U18 VDDUTMIC (power), V13 VDDPLLUTMI (power), V14 VDDIOP2 (power), V17 VDDUTMII (power)